# Altium integrated library Motorola Microcontroller 32-Bit.IntLib: 337 symbols (part 5 of 29)
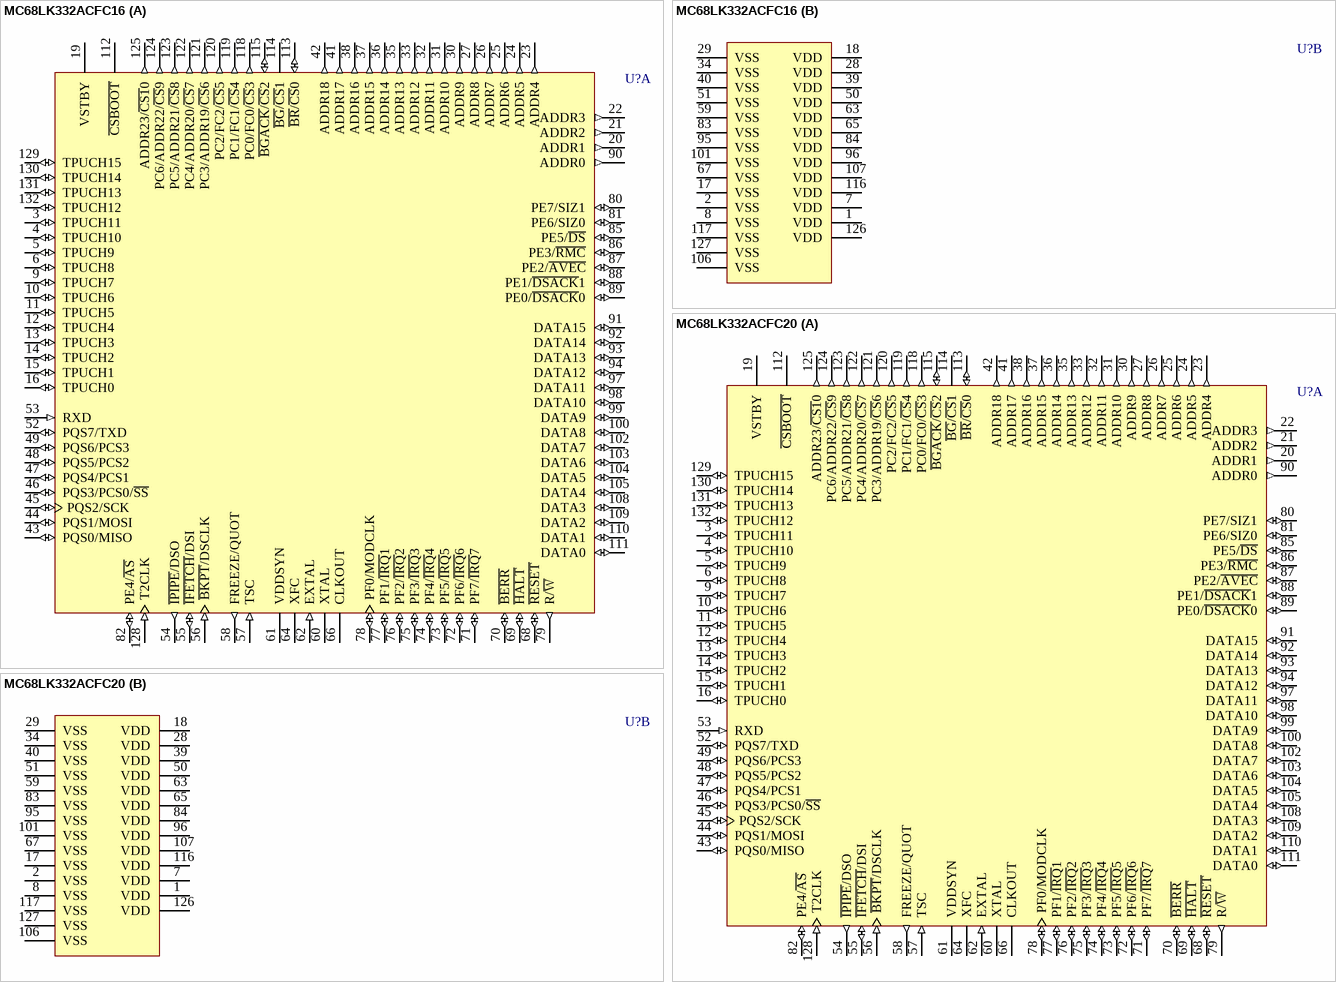
[diagram p244: symbols MC68LK332ACFC16 to MC68LK332ACFC20]

## MC68LK332ACFC16
designator U?
32-Bit Microcontroller; Published: 21-Mar-2003; DatasheetVersion: Jan-1996; PackageVersion: 1997; PackageReference: 831A-01; Publisher: Altium Limited; PackageDescription: PQFP; 132 Leads; Body 24 x 24 mm; Pitch 0.635 mm; ComponentLink1Description: Manufacturer Link; ComponentLink1URL: http://www.freescale.com/; ComponentLink2Description: Datasheet; ComponentLink2URL: http://www.freescale.com/files/microcontrollers/doc/user_guide/MC68332UM.pdf
footprint 831A-01 (PQFP; 132 Leads; Body 24 x 24 mm; Pitch 0.635 mm)
part A pins: 3 TPUCH11 (io), 4 TPUCH10 (io), 5 TPUCH9 (io), 6 TPUCH8 (io), 9 TPUCH7 (io), 10 TPUCH6 (io), 11 TPUCH5 (io), 12 TPUCH4 (io), 13 TPUCH3 (io), 14 TPUCH2 (io), 15 TPUCH1 (io), 16 TPUCH0 (io), 19 VSTBY (power), 20 ADDR1 (out), 21 ADDR2 (out), 22 ADDR3 (out), 23 ADDR4 (out), 24 ADDR5 (out), 25 ADDR6 (out), 26 ADDR7 (out), 27 ADDR8 (out), 30 ADDR9 (out), 31 ADDR10 (out), 32 ADDR11 (out), 33 ADDR12 (out), 35 ADDR13 (out), 36 ADDR14 (out), 37 ADDR15 (out), 38 ADDR16 (out), 41 ADDR17 (out), 42 ADDR18 (out), 43 PQS0/MISO (io), 44 PQS1/MOSI (io), 45 PQS2/SCK (io), 46 PQS3/PCS0/~{SS} (io), 47 PQS4/PCS1 (io), 48 PQS5/PCS2 (io), 49 PQS6/PCS3 (io), 52 PQS7/TXD (io), 53 RXD (in), 54 ~{IPIPE}/DSO (out), 55 ~{IFETCH}/DSI (io), 56 ~{BKPT}/DSCLK (in), 57 TSC (in), 58 FREEZE/QUOT (out), 60 XTAL, 61 VDDSYN (power), 62 EXTAL (in), 64 XFC, 66 CLKOUT (hiz), 68 ~{RESET} (io), 69 ~{HALT} (io), 70 ~{BERR} (io), 71 PF7/~{IRQ}7 (io), 72 PF6/~{IRQ}6 (io), 73 PF5/~{IRQ}5 (io), 74 PF4/~{IRQ}4 (io), 75 PF3/~{IRQ}3 (io), 76 PF2/~{IRQ}2 (io), 77 PF1/~{IRQ}1 (io), 78 PF0/MODCLK (io), 79 R/~{W} (out), 80 PE7/SIZ1 (io), 81 PE6/SIZ0 (io), 82 PE4/~{AS} (io), 85 PE5/~{DS} (io), 86 PE3/~{RMC} (io), 87 PE2/~{AVEC} (io), 88 PE1/~{DSACK}1 (io), 89 PE0/~{DSACK}0 (io), 90 ADDR0 (out), 91 DATA15 (io), 92 DATA14 (io), 93 DATA13 (io), 94 DATA12 (io), 97 DATA11 (io), 98 DATA10 (io), 99 DATA9 (io), 100 DATA8 (io), 102 DATA7 (io), 103 DATA6 (io), 104 DATA5 (io), 105 DATA4 (io), 108 DATA3 (io), 109 DATA2 (io), 110 DATA1 (io), 111 DATA0 (io), 112 ~{CSBOOT} (hiz), 113 ~{BR}/~{CS}0 (io), 114 ~{BG}/~{CS}1 (hiz), 115 ~{BGACK}/~{CS}2 (io), 118 PC0/FC0/~{CS}3 (out), 119 PC1/FC1/~{CS}4 (out), 120 PC2/FC2/~{CS}5 (out), 121 PC3/ADDR19/~{CS}6 (out), 122 PC4/ADDR20/~{CS}7 (out), 123 PC5/ADDR21/~{CS}8 (out), 124 PC6/ADDR22/~{CS}9 (out), 125 ADDR23/~{CS1}0 (out), 128 T2CLK (in), 129 TPUCH15 (io), 130 TPUCH14 (io), 131 TPUCH13 (io), 132 TPUCH12 (io)
part B pins: 1 VDD (power), 2 VSS (power), 7 VDD (power), 8 VSS (power), 17 VSS (power), 18 VDD (power), 28 VDD (power), 29 VSS (power), 34 VSS (power), 39 VDD (power), 40 VSS (power), 50 VDD (power), 51 VSS (power), 59 VSS (power), 63 VDD (power), 65 VDD (power), 67 VSS (power), 83 VSS (power), 84 VDD (power), 95 VSS (power), 96 VDD (power), 101 VSS (power), 106 VSS (power), 107 VDD (power), 116 VDD (power), 117 VSS (power), 126 VDD (power), 127 VSS (power)

## MC68LK332ACFC20
designator U?
32-Bit Microcontroller; Published: 21-Mar-2003; DatasheetVersion: Jan-1996; PackageVersion: 1997; PackageReference: 831A-01; Publisher: Altium Limited; PackageDescription: PQFP; 132 Leads; Body 24 x 24 mm; Pitch 0.635 mm; ComponentLink1Description: Manufacturer Link; ComponentLink1URL: http://www.freescale.com/; ComponentLink2Description: Datasheet; ComponentLink2URL: http://www.freescale.com/files/microcontrollers/doc/user_guide/MC68332UM.pdf
footprint 831A-01 (PQFP; 132 Leads; Body 24 x 24 mm; Pitch 0.635 mm)
part A pins: 3 TPUCH11 (io), 4 TPUCH10 (io), 5 TPUCH9 (io), 6 TPUCH8 (io), 9 TPUCH7 (io), 10 TPUCH6 (io), 11 TPUCH5 (io), 12 TPUCH4 (io), 13 TPUCH3 (io), 14 TPUCH2 (io), 15 TPUCH1 (io), 16 TPUCH0 (io), 19 VSTBY (power), 20 ADDR1 (out), 21 ADDR2 (out), 22 ADDR3 (out), 23 ADDR4 (out), 24 ADDR5 (out), 25 ADDR6 (out), 26 ADDR7 (out), 27 ADDR8 (out), 30 ADDR9 (out), 31 ADDR10 (out), 32 ADDR11 (out), 33 ADDR12 (out), 35 ADDR13 (out), 36 ADDR14 (out), 37 ADDR15 (out), 38 ADDR16 (out), 41 ADDR17 (out), 42 ADDR18 (out), 43 PQS0/MISO (io), 44 PQS1/MOSI (io), 45 PQS2/SCK (io), 46 PQS3/PCS0/~{SS} (io), 47 PQS4/PCS1 (io), 48 PQS5/PCS2 (io), 49 PQS6/PCS3 (io), 52 PQS7/TXD (io), 53 RXD (in), 54 ~{IPIPE}/DSO (out), 55 ~{IFETCH}/DSI (io), 56 ~{BKPT}/DSCLK (in), 57 TSC (in), 58 FREEZE/QUOT (out), 60 XTAL, 61 VDDSYN (power), 62 EXTAL (in), 64 XFC, 66 CLKOUT (hiz), 68 ~{RESET} (io), 69 ~{HALT} (io), 70 ~{BERR} (io), 71 PF7/~{IRQ}7 (io), 72 PF6/~{IRQ}6 (io), 73 PF5/~{IRQ}5 (io), 74 PF4/~{IRQ}4 (io), 75 PF3/~{IRQ}3 (io), 76 PF2/~{IRQ}2 (io), 77 PF1/~{IRQ}1 (io), 78 PF0/MODCLK (io), 79 R/~{W} (out), 80 PE7/SIZ1 (io), 81 PE6/SIZ0 (io), 82 PE4/~{AS} (io), 85 PE5/~{DS} (io), 86 PE3/~{RMC} (io), 87 PE2/~{AVEC} (io), 88 PE1/~{DSACK}1 (io), 89 PE0/~{DSACK}0 (io), 90 ADDR0 (out), 91 DATA15 (io), 92 DATA14 (io), 93 DATA13 (io), 94 DATA12 (io), 97 DATA11 (io), 98 DATA10 (io), 99 DATA9 (io), 100 DATA8 (io), 102 DATA7 (io), 103 DATA6 (io), 104 DATA5 (io), 105 DATA4 (io), 108 DATA3 (io), 109 DATA2 (io), 110 DATA1 (io), 111 DATA0 (io), 112 ~{CSBOOT} (hiz), 113 ~{BR}/~{CS}0 (io), 114 ~{BG}/~{CS}1 (hiz), 115 ~{BGACK}/~{CS}2 (io), 118 PC0/FC0/~{CS}3 (out), 119 PC1/FC1/~{CS}4 (out), 120 PC2/FC2/~{CS}5 (out), 121 PC3/ADDR19/~{CS}6 (out), 122 PC4/ADDR20/~{CS}7 (out), 123 PC5/ADDR21/~{CS}8 (out), 124 PC6/ADDR22/~{CS}9 (out), 125 ADDR23/~{CS1}0 (out), 128 T2CLK (in), 129 TPUCH15 (io), 130 TPUCH14 (io), 131 TPUCH13 (io), 132 TPUCH12 (io)
part B pins: 1 VDD (power), 2 VSS (power), 7 VDD (power), 8 VSS (power), 17 VSS (power), 18 VDD (power), 28 VDD (power), 29 VSS (power), 34 VSS (power), 39 VDD (power), 40 VSS (power), 50 VDD (power), 51 VSS (power), 59 VSS (power), 63 VDD (power), 65 VDD (power), 67 VSS (power), 83 VSS (power), 84 VDD (power), 95 VSS (power), 96 VDD (power), 101 VSS (power), 106 VSS (power), 107 VDD (power), 116 VDD (power), 117 VSS (power), 126 VDD (power), 127 VSS (power)

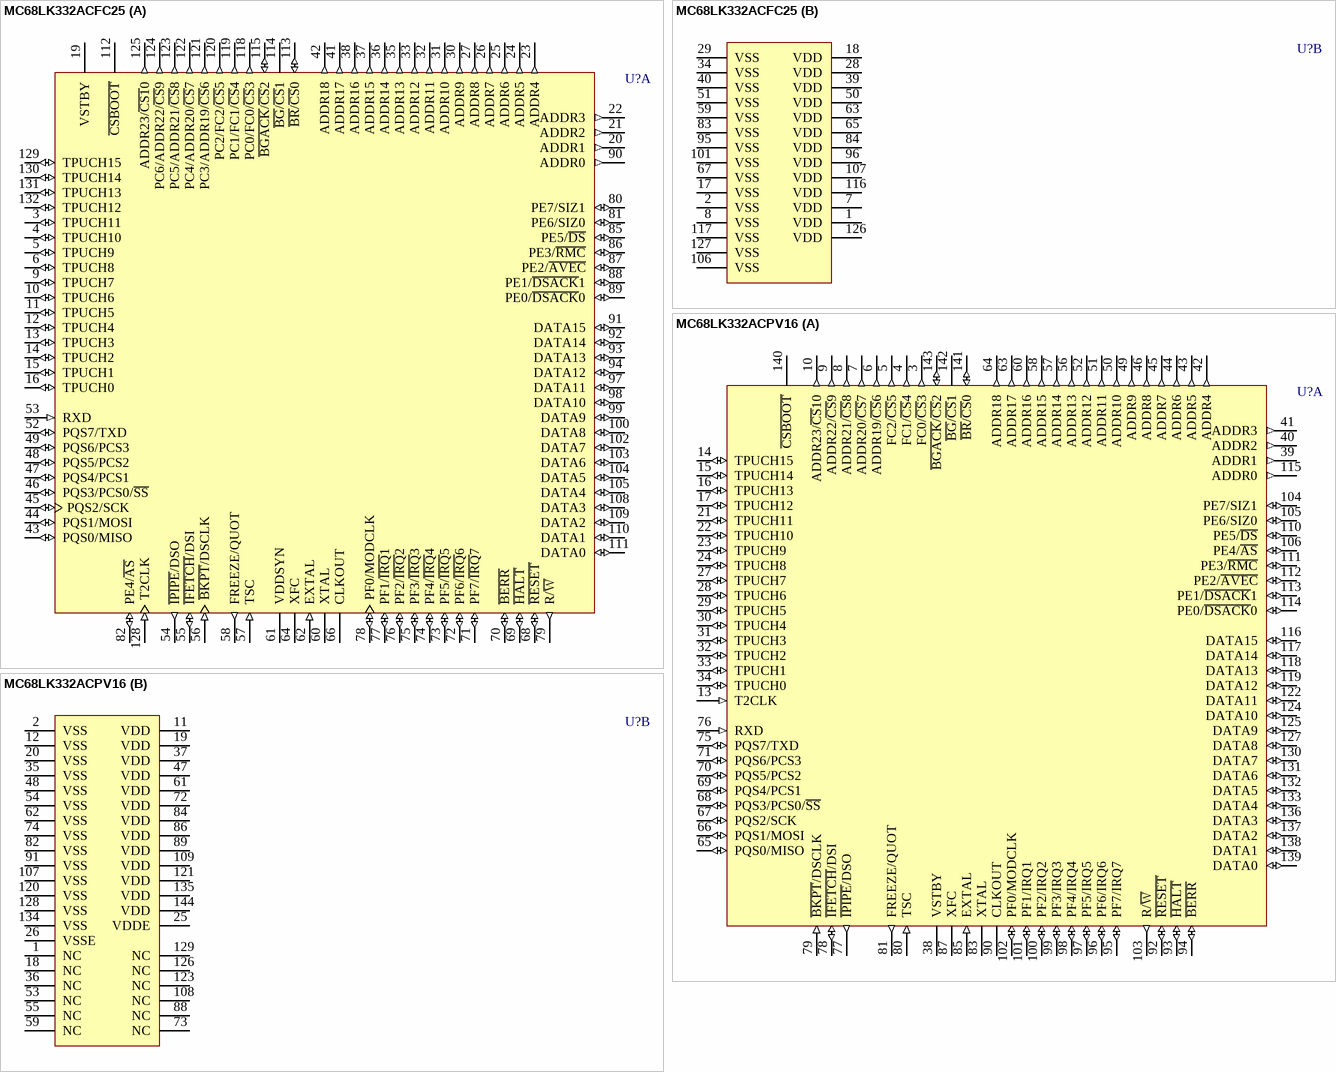
[diagram p40: symbols MC68LK332ACFC25 to MC68LK332ACPV16]

## MC68LK332ACFC25
designator U?
32-Bit Microcontroller; Published: 21-Mar-2003; DatasheetVersion: Jan-1996; PackageVersion: 1997; PackageReference: 831A-01; Publisher: Altium Limited; PackageDescription: PQFP; 132 Leads; Body 24 x 24 mm; Pitch 0.635 mm; ComponentLink1Description: Manufacturer Link; ComponentLink1URL: http://www.freescale.com/; ComponentLink2Description: Datasheet; ComponentLink2URL: http://www.freescale.com/files/microcontrollers/doc/user_guide/MC68332UM.pdf
footprint 831A-01 (PQFP; 132 Leads; Body 24 x 24 mm; Pitch 0.635 mm)
part A pins: 3 TPUCH11 (io), 4 TPUCH10 (io), 5 TPUCH9 (io), 6 TPUCH8 (io), 9 TPUCH7 (io), 10 TPUCH6 (io), 11 TPUCH5 (io), 12 TPUCH4 (io), 13 TPUCH3 (io), 14 TPUCH2 (io), 15 TPUCH1 (io), 16 TPUCH0 (io), 19 VSTBY (power), 20 ADDR1 (out), 21 ADDR2 (out), 22 ADDR3 (out), 23 ADDR4 (out), 24 ADDR5 (out), 25 ADDR6 (out), 26 ADDR7 (out), 27 ADDR8 (out), 30 ADDR9 (out), 31 ADDR10 (out), 32 ADDR11 (out), 33 ADDR12 (out), 35 ADDR13 (out), 36 ADDR14 (out), 37 ADDR15 (out), 38 ADDR16 (out), 41 ADDR17 (out), 42 ADDR18 (out), 43 PQS0/MISO (io), 44 PQS1/MOSI (io), 45 PQS2/SCK (io), 46 PQS3/PCS0/~{SS} (io), 47 PQS4/PCS1 (io), 48 PQS5/PCS2 (io), 49 PQS6/PCS3 (io), 52 PQS7/TXD (io), 53 RXD (in), 54 ~{IPIPE}/DSO (out), 55 ~{IFETCH}/DSI (io), 56 ~{BKPT}/DSCLK (in), 57 TSC (in), 58 FREEZE/QUOT (out), 60 XTAL, 61 VDDSYN (power), 62 EXTAL (in), 64 XFC, 66 CLKOUT (hiz), 68 ~{RESET} (io), 69 ~{HALT} (io), 70 ~{BERR} (io), 71 PF7/~{IRQ}7 (io), 72 PF6/~{IRQ}6 (io), 73 PF5/~{IRQ}5 (io), 74 PF4/~{IRQ}4 (io), 75 PF3/~{IRQ}3 (io), 76 PF2/~{IRQ}2 (io), 77 PF1/~{IRQ}1 (io), 78 PF0/MODCLK (io), 79 R/~{W} (out), 80 PE7/SIZ1 (io), 81 PE6/SIZ0 (io), 82 PE4/~{AS} (io), 85 PE5/~{DS} (io), 86 PE3/~{RMC} (io), 87 PE2/~{AVEC} (io), 88 PE1/~{DSACK}1 (io), 89 PE0/~{DSACK}0 (io), 90 ADDR0 (out), 91 DATA15 (io), 92 DATA14 (io), 93 DATA13 (io), 94 DATA12 (io), 97 DATA11 (io), 98 DATA10 (io), 99 DATA9 (io), 100 DATA8 (io), 102 DATA7 (io), 103 DATA6 (io), 104 DATA5 (io), 105 DATA4 (io), 108 DATA3 (io), 109 DATA2 (io), 110 DATA1 (io), 111 DATA0 (io), 112 ~{CSBOOT} (hiz), 113 ~{BR}/~{CS}0 (io), 114 ~{BG}/~{CS}1 (hiz), 115 ~{BGACK}/~{CS}2 (io), 118 PC0/FC0/~{CS}3 (out), 119 PC1/FC1/~{CS}4 (out), 120 PC2/FC2/~{CS}5 (out), 121 PC3/ADDR19/~{CS}6 (out), 122 PC4/ADDR20/~{CS}7 (out), 123 PC5/ADDR21/~{CS}8 (out), 124 PC6/ADDR22/~{CS}9 (out), 125 ADDR23/~{CS1}0 (out), 128 T2CLK (in), 129 TPUCH15 (io), 130 TPUCH14 (io), 131 TPUCH13 (io), 132 TPUCH12 (io)
part B pins: 1 VDD (power), 2 VSS (power), 7 VDD (power), 8 VSS (power), 17 VSS (power), 18 VDD (power), 28 VDD (power), 29 VSS (power), 34 VSS (power), 39 VDD (power), 40 VSS (power), 50 VDD (power), 51 VSS (power), 59 VSS (power), 63 VDD (power), 65 VDD (power), 67 VSS (power), 83 VSS (power), 84 VDD (power), 95 VSS (power), 96 VDD (power), 101 VSS (power), 106 VSS (power), 107 VDD (power), 116 VDD (power), 117 VSS (power), 126 VDD (power), 127 VSS (power)

## MC68LK332ACPV16
designator U?
32-Bit Microcontroller; Published: 21-Mar-2003; LatestRevisionDate: 13-Apr-2006; LatestRevisionNote: IPC-7351 Footprint Added.; DatasheetVersion: Jan-1996; PackageVersion: 1995; PackageReference: 918-02; Publisher: Altium Limited; PackageDescription: 144-Pin Thin Quad Flat Pack 0.5 mm Pitch; ComponentLink1Description: Manufacturer Link; ComponentLink1URL: http://www.freescale.com/; ComponentLink2Description: Datasheet; ComponentLink2URL: http://www.freescale.com/files/microcontrollers/doc/user_guide/MC68332UM.pdf
footprint 918-02_N (Thin QFP, 144-Leads, Body 20x20mm, Pitch 0.5mm, IPC Medium Density)
footprint 918-02_L (Thin QFP, 144-Leads, Body 20x20mm, Pitch 0.5mm, IPC High Density)
footprint 918-02_M (Thin QFP, 144-Leads, Body 20x20mm, Pitch 0.5mm, IPC Low Density)
3D model MC68LK332-918 (144-Pin Thin Quad Flat Pack 0.5 mm Pitch)
part A pins: 3 FC0/~{CS}3 (out), 4 FC1/~{CS}4 (out), 5 FC2/~{CS}5 (out), 6 ADDR19/~{CS}6 (out), 7 ADDR20/~{CS}7 (out), 8 ADDR21/~{CS}8 (out), 9 ADDR22/~{CS}9 (out), 10 ADDR23/~{CS}10 (out), 13 T2CLK (in), 14 TPUCH15 (io), 15 TPUCH14 (io), 16 TPUCH13 (io), 17 TPUCH12 (io), 21 TPUCH11 (io), 22 TPUCH10 (io), 23 TPUCH9 (io), 24 TPUCH8 (io), 27 TPUCH7 (io), 28 TPUCH6 (io), 29 TPUCH5 (io), 30 TPUCH4 (io), 31 TPUCH3 (io), 32 TPUCH2 (io), 33 TPUCH1 (io), 34 TPUCH0 (io), 38 VSTBY (power), 39 ADDR1 (out), 40 ADDR2 (out), 41 ADDR3 (out), 42 ADDR4 (out), 43 ADDR5 (out), 44 ADDR6 (out), 45 ADDR7 (out), 46 ADDR8 (out), 49 ADDR9 (out), 50 ADDR10 (out), 51 ADDR11 (out), 52 ADDR12 (out), 56 ADDR13 (out), 57 ADDR14 (out), 58 ADDR15 (out), 60 ADDR16 (out), 63 ADDR17 (out), 64 ADDR18 (out), 65 PQS0/MISO (io), 66 PQS1/MOSI (io), 67 PQS2/SCK (io), 68 PQS3/PCS0/~{SS} (io), 69 PQS4/PCS1 (io), 70 PQS5/PCS2 (io), 71 PQS6/PCS3 (io), 75 PQS7/TXD (io), 76 RXD (in), 77 ~{IPIPE}/DSO (out), 78 ~{IFETCH}/DSI (io), 79 ~{BKPT}/DSCLK (in), 80 TSC (in), 81 FREEZE/QUOT (out), 83 XTAL, 85 EXTAL (in), 87 XFC, 90 CLKOUT (hiz), 92 ~{RESET} (io), 93 ~{HALT} (io), 94 ~{BERR} (io), 95 PF7/IRQ7 (io), 96 PF6/IRQ6 (io), 97 PF5/IRQ5 (io), 98 PF4/IRQ4 (io), 99 PF3/IRQ3 (io), 100 PF2/IRQ2 (io), 101 PF1/IRQ1 (io), 102 PF0/MODCLK (io), 103 R/~{W} (out), 104 PE7/SIZ1 (io), 105 PE6/SIZ0 (io), 106 PE4/~{AS} (io), 110 PE5/~{DS} (io), 111 PE3/~{RMC} (io), 112 PE2/~{AVEC} (io), 113 PE1/~{DSACK}1 (io), 114 PE0/~{DSACK}0 (io), 115 ADDR0 (out), 116 DATA15 (io), 117 DATA14 (io), 118 DATA13 (io), 119 DATA12 (io), 122 DATA11 (io), 124 DATA10 (io), 125 DATA9 (io), 127 DATA8 (io), 130 DATA7 (io), 131 DATA6 (io), 132 DATA5 (io), 133 DATA4 (io), 136 DATA3 (io), 137 DATA2 (io), 138 DATA1 (io), 139 DATA0 (io), 140 ~{CSBOOT} (hiz), 141 ~{BR}/~{CS}0 (io), 142 ~{BG}/~{CS}1 (hiz), 143 ~{BGACK}/~{CS}2 (io)
part B pins: 1 NC, 2 VSS (power), 11 VDD (power), 12 VSS (power), 18 NC, 19 VDD (power), 20 VSS (power), 25 VDDE (power), 26 VSSE (power), 35 VSS (power), 36 NC, 37 VDD (power), 47 VDD (power), 48 VSS (power), 53 NC, 54 VSS (power), 55 NC, 59 NC, 61 VDD (power), 62 VSS (power), 72 VDD (power), 73 NC, 74 VSS (power), 82 VSS (power), 84 VDD (power), 86 VDD (power), 88 NC, 89 VDD (power), 91 VSS (power), 107 VSS (power), 108 NC, 109 VDD (power), 120 VSS (power), 121 VDD (power), 123 NC, 126 NC, 128 VSS (power), 129 NC, 134 VSS (power), 135 VDD (power), 144 VDD (power)

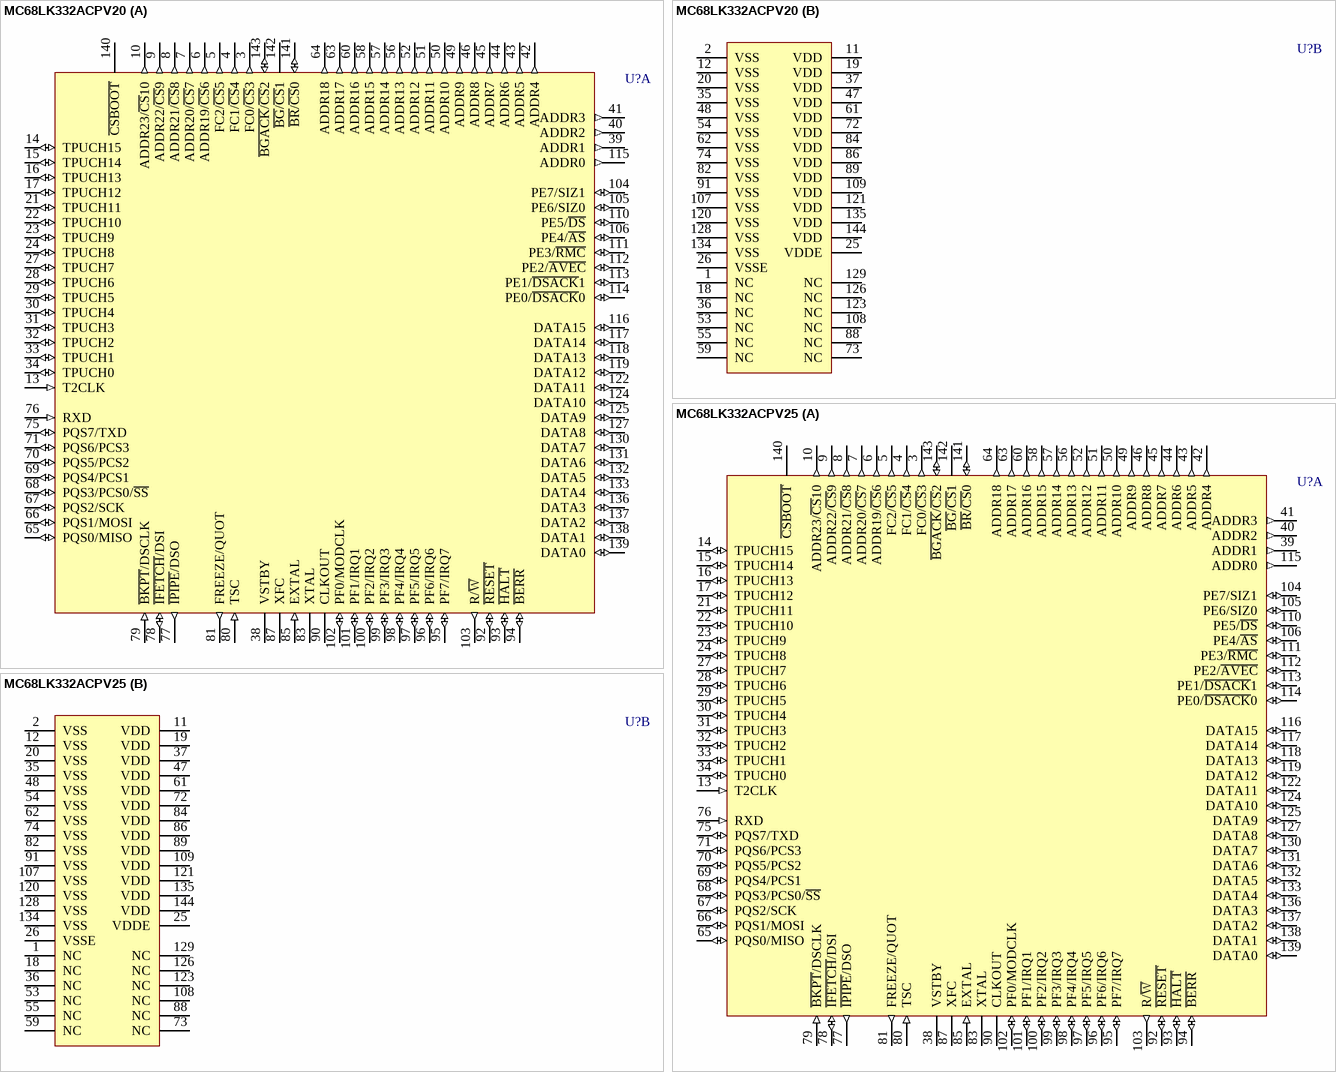
[diagram p41: symbols MC68LK332ACPV20 to MC68LK332ACPV25]

## MC68LK332ACPV20
designator U?
32-Bit Microcontroller; Published: 21-Mar-2003; LatestRevisionDate: 13-Apr-2006; LatestRevisionNote: IPC-7351 Footprint Added.; DatasheetVersion: Jan-1996; PackageVersion: 1995; PackageReference: 918-02; Publisher: Altium Limited; PackageDescription: 144-Pin Thin Quad Flat Pack 0.5 mm Pitch; ComponentLink1Description: Manufacturer Link; ComponentLink1URL: http://www.freescale.com/; ComponentLink2Description: Datasheet; ComponentLink2URL: http://www.freescale.com/files/microcontrollers/doc/user_guide/MC68332UM.pdf
footprint 918-02_N (Thin QFP, 144-Leads, Body 20x20mm, Pitch 0.5mm, IPC Medium Density)
footprint 918-02_L (Thin QFP, 144-Leads, Body 20x20mm, Pitch 0.5mm, IPC High Density)
footprint 918-02_M (Thin QFP, 144-Leads, Body 20x20mm, Pitch 0.5mm, IPC Low Density)
3D model MC68LK332-918 (144-Pin Thin Quad Flat Pack 0.5 mm Pitch)
part A pins: 3 FC0/~{CS}3 (out), 4 FC1/~{CS}4 (out), 5 FC2/~{CS}5 (out), 6 ADDR19/~{CS}6 (out), 7 ADDR20/~{CS}7 (out), 8 ADDR21/~{CS}8 (out), 9 ADDR22/~{CS}9 (out), 10 ADDR23/~{CS}10 (out), 13 T2CLK (in), 14 TPUCH15 (io), 15 TPUCH14 (io), 16 TPUCH13 (io), 17 TPUCH12 (io), 21 TPUCH11 (io), 22 TPUCH10 (io), 23 TPUCH9 (io), 24 TPUCH8 (io), 27 TPUCH7 (io), 28 TPUCH6 (io), 29 TPUCH5 (io), 30 TPUCH4 (io), 31 TPUCH3 (io), 32 TPUCH2 (io), 33 TPUCH1 (io), 34 TPUCH0 (io), 38 VSTBY (power), 39 ADDR1 (out), 40 ADDR2 (out), 41 ADDR3 (out), 42 ADDR4 (out), 43 ADDR5 (out), 44 ADDR6 (out), 45 ADDR7 (out), 46 ADDR8 (out), 49 ADDR9 (out), 50 ADDR10 (out), 51 ADDR11 (out), 52 ADDR12 (out), 56 ADDR13 (out), 57 ADDR14 (out), 58 ADDR15 (out), 60 ADDR16 (out), 63 ADDR17 (out), 64 ADDR18 (out), 65 PQS0/MISO (io), 66 PQS1/MOSI (io), 67 PQS2/SCK (io), 68 PQS3/PCS0/~{SS} (io), 69 PQS4/PCS1 (io), 70 PQS5/PCS2 (io), 71 PQS6/PCS3 (io), 75 PQS7/TXD (io), 76 RXD (in), 77 ~{IPIPE}/DSO (out), 78 ~{IFETCH}/DSI (io), 79 ~{BKPT}/DSCLK (in), 80 TSC (in), 81 FREEZE/QUOT (out), 83 XTAL, 85 EXTAL (in), 87 XFC, 90 CLKOUT (hiz), 92 ~{RESET} (io), 93 ~{HALT} (io), 94 ~{BERR} (io), 95 PF7/IRQ7 (io), 96 PF6/IRQ6 (io), 97 PF5/IRQ5 (io), 98 PF4/IRQ4 (io), 99 PF3/IRQ3 (io), 100 PF2/IRQ2 (io), 101 PF1/IRQ1 (io), 102 PF0/MODCLK (io), 103 R/~{W} (out), 104 PE7/SIZ1 (io), 105 PE6/SIZ0 (io), 106 PE4/~{AS} (io), 110 PE5/~{DS} (io), 111 PE3/~{RMC} (io), 112 PE2/~{AVEC} (io), 113 PE1/~{DSACK}1 (io), 114 PE0/~{DSACK}0 (io), 115 ADDR0 (out), 116 DATA15 (io), 117 DATA14 (io), 118 DATA13 (io), 119 DATA12 (io), 122 DATA11 (io), 124 DATA10 (io), 125 DATA9 (io), 127 DATA8 (io), 130 DATA7 (io), 131 DATA6 (io), 132 DATA5 (io), 133 DATA4 (io), 136 DATA3 (io), 137 DATA2 (io), 138 DATA1 (io), 139 DATA0 (io), 140 ~{CSBOOT} (hiz), 141 ~{BR}/~{CS}0 (io), 142 ~{BG}/~{CS}1 (hiz), 143 ~{BGACK}/~{CS}2 (io)
part B pins: 1 NC, 2 VSS (power), 11 VDD (power), 12 VSS (power), 18 NC, 19 VDD (power), 20 VSS (power), 25 VDDE (power), 26 VSSE (power), 35 VSS (power), 36 NC, 37 VDD (power), 47 VDD (power), 48 VSS (power), 53 NC, 54 VSS (power), 55 NC, 59 NC, 61 VDD (power), 62 VSS (power), 72 VDD (power), 73 NC, 74 VSS (power), 82 VSS (power), 84 VDD (power), 86 VDD (power), 88 NC, 89 VDD (power), 91 VSS (power), 107 VSS (power), 108 NC, 109 VDD (power), 120 VSS (power), 121 VDD (power), 123 NC, 126 NC, 128 VSS (power), 129 NC, 134 VSS (power), 135 VDD (power), 144 VDD (power)

## MC68LK332ACPV25
designator U?
32-Bit Microcontroller; Published: 21-Mar-2003; LatestRevisionDate: 13-Apr-2006; LatestRevisionNote: IPC-7351 Footprint Added.; DatasheetVersion: Jan-1996; PackageVersion: 1995; PackageReference: 918-02; Publisher: Altium Limited; PackageDescription: 144-Pin Thin Quad Flat Pack 0.5 mm Pitch; ComponentLink1Description: Manufacturer Link; ComponentLink1URL: http://www.freescale.com/; ComponentLink2Description: Datasheet; ComponentLink2URL: http://www.freescale.com/files/microcontrollers/doc/user_guide/MC68332UM.pdf
footprint 918-02_N (Thin QFP, 144-Leads, Body 20x20mm, Pitch 0.5mm, IPC Medium Density)
footprint 918-02_L (Thin QFP, 144-Leads, Body 20x20mm, Pitch 0.5mm, IPC High Density)
footprint 918-02_M (Thin QFP, 144-Leads, Body 20x20mm, Pitch 0.5mm, IPC Low Density)
3D model MC68LK332-918 (144-Pin Thin Quad Flat Pack 0.5 mm Pitch)
part A pins: 3 FC0/~{CS}3 (out), 4 FC1/~{CS}4 (out), 5 FC2/~{CS}5 (out), 6 ADDR19/~{CS}6 (out), 7 ADDR20/~{CS}7 (out), 8 ADDR21/~{CS}8 (out), 9 ADDR22/~{CS}9 (out), 10 ADDR23/~{CS}10 (out), 13 T2CLK (in), 14 TPUCH15 (io), 15 TPUCH14 (io), 16 TPUCH13 (io), 17 TPUCH12 (io), 21 TPUCH11 (io), 22 TPUCH10 (io), 23 TPUCH9 (io), 24 TPUCH8 (io), 27 TPUCH7 (io), 28 TPUCH6 (io), 29 TPUCH5 (io), 30 TPUCH4 (io), 31 TPUCH3 (io), 32 TPUCH2 (io), 33 TPUCH1 (io), 34 TPUCH0 (io), 38 VSTBY (power), 39 ADDR1 (out), 40 ADDR2 (out), 41 ADDR3 (out), 42 ADDR4 (out), 43 ADDR5 (out), 44 ADDR6 (out), 45 ADDR7 (out), 46 ADDR8 (out), 49 ADDR9 (out), 50 ADDR10 (out), 51 ADDR11 (out), 52 ADDR12 (out), 56 ADDR13 (out), 57 ADDR14 (out), 58 ADDR15 (out), 60 ADDR16 (out), 63 ADDR17 (out), 64 ADDR18 (out), 65 PQS0/MISO (io), 66 PQS1/MOSI (io), 67 PQS2/SCK (io), 68 PQS3/PCS0/~{SS} (io), 69 PQS4/PCS1 (io), 70 PQS5/PCS2 (io), 71 PQS6/PCS3 (io), 75 PQS7/TXD (io), 76 RXD (in), 77 ~{IPIPE}/DSO (out), 78 ~{IFETCH}/DSI (io), 79 ~{BKPT}/DSCLK (in), 80 TSC (in), 81 FREEZE/QUOT (out), 83 XTAL, 85 EXTAL (in), 87 XFC, 90 CLKOUT (hiz), 92 ~{RESET} (io), 93 ~{HALT} (io), 94 ~{BERR} (io), 95 PF7/IRQ7 (io), 96 PF6/IRQ6 (io), 97 PF5/IRQ5 (io), 98 PF4/IRQ4 (io), 99 PF3/IRQ3 (io), 100 PF2/IRQ2 (io), 101 PF1/IRQ1 (io), 102 PF0/MODCLK (io), 103 R/~{W} (out), 104 PE7/SIZ1 (io), 105 PE6/SIZ0 (io), 106 PE4/~{AS} (io), 110 PE5/~{DS} (io), 111 PE3/~{RMC} (io), 112 PE2/~{AVEC} (io), 113 PE1/~{DSACK}1 (io), 114 PE0/~{DSACK}0 (io), 115 ADDR0 (out), 116 DATA15 (io), 117 DATA14 (io), 118 DATA13 (io), 119 DATA12 (io), 122 DATA11 (io), 124 DATA10 (io), 125 DATA9 (io), 127 DATA8 (io), 130 DATA7 (io), 131 DATA6 (io), 132 DATA5 (io), 133 DATA4 (io), 136 DATA3 (io), 137 DATA2 (io), 138 DATA1 (io), 139 DATA0 (io), 140 ~{CSBOOT} (hiz), 141 ~{BR}/~{CS}0 (io), 142 ~{BG}/~{CS}1 (hiz), 143 ~{BGACK}/~{CS}2 (io)
part B pins: 1 NC, 2 VSS (power), 11 VDD (power), 12 VSS (power), 18 NC, 19 VDD (power), 20 VSS (power), 25 VDDE (power), 26 VSSE (power), 35 VSS (power), 36 NC, 37 VDD (power), 47 VDD (power), 48 VSS (power), 53 NC, 54 VSS (power), 55 NC, 59 NC, 61 VDD (power), 62 VSS (power), 72 VDD (power), 73 NC, 74 VSS (power), 82 VSS (power), 84 VDD (power), 86 VDD (power), 88 NC, 89 VDD (power), 91 VSS (power), 107 VSS (power), 108 NC, 109 VDD (power), 120 VSS (power), 121 VDD (power), 123 NC, 126 NC, 128 VSS (power), 129 NC, 134 VSS (power), 135 VDD (power), 144 VDD (power)

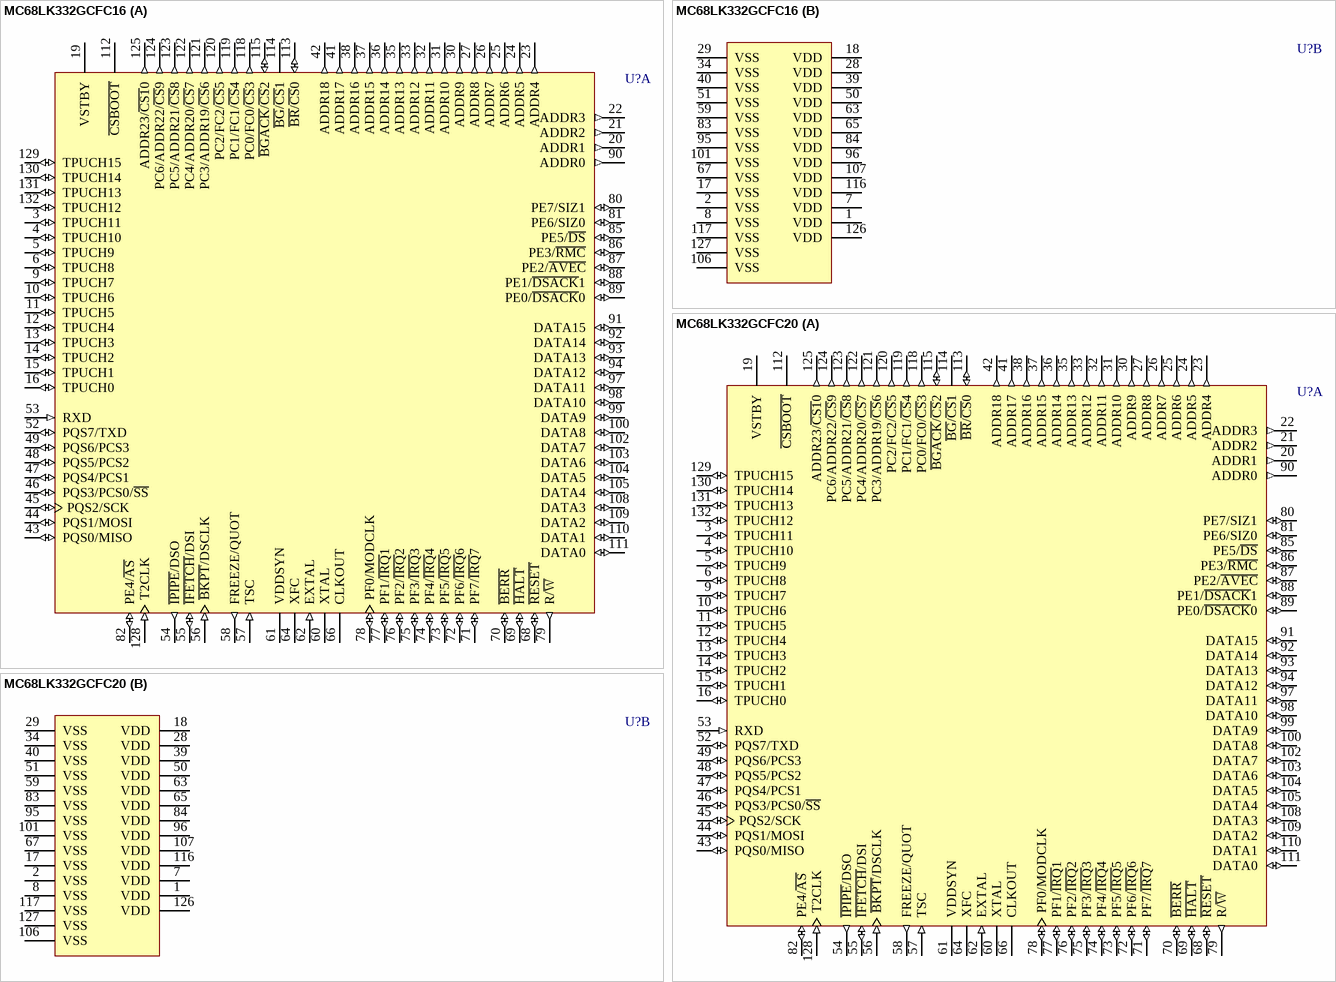
[diagram p42: symbols MC68LK332GCFC16 to MC68LK332GCFC20]

## MC68LK332GCFC16
designator U?
32-Bit Microcontroller; Published: 21-Mar-2003; DatasheetVersion: Jan-1996; PackageVersion: 1997; PackageReference: 831A-01; Publisher: Altium Limited; PackageDescription: PQFP; 132 Leads; Body 24 x 24 mm; Pitch 0.635 mm; ComponentLink1Description: Manufacturer Link; ComponentLink1URL: http://www.freescale.com/; ComponentLink2Description: Datasheet; ComponentLink2URL: http://www.freescale.com/files/microcontrollers/doc/user_guide/MC68332UM.pdf
footprint 831A-01 (PQFP; 132 Leads; Body 24 x 24 mm; Pitch 0.635 mm)
part A pins: 3 TPUCH11 (io), 4 TPUCH10 (io), 5 TPUCH9 (io), 6 TPUCH8 (io), 9 TPUCH7 (io), 10 TPUCH6 (io), 11 TPUCH5 (io), 12 TPUCH4 (io), 13 TPUCH3 (io), 14 TPUCH2 (io), 15 TPUCH1 (io), 16 TPUCH0 (io), 19 VSTBY (power), 20 ADDR1 (out), 21 ADDR2 (out), 22 ADDR3 (out), 23 ADDR4 (out), 24 ADDR5 (out), 25 ADDR6 (out), 26 ADDR7 (out), 27 ADDR8 (out), 30 ADDR9 (out), 31 ADDR10 (out), 32 ADDR11 (out), 33 ADDR12 (out), 35 ADDR13 (out), 36 ADDR14 (out), 37 ADDR15 (out), 38 ADDR16 (out), 41 ADDR17 (out), 42 ADDR18 (out), 43 PQS0/MISO (io), 44 PQS1/MOSI (io), 45 PQS2/SCK (io), 46 PQS3/PCS0/~{SS} (io), 47 PQS4/PCS1 (io), 48 PQS5/PCS2 (io), 49 PQS6/PCS3 (io), 52 PQS7/TXD (io), 53 RXD (in), 54 ~{IPIPE}/DSO (out), 55 ~{IFETCH}/DSI (io), 56 ~{BKPT}/DSCLK (in), 57 TSC (in), 58 FREEZE/QUOT (out), 60 XTAL, 61 VDDSYN (power), 62 EXTAL (in), 64 XFC, 66 CLKOUT (hiz), 68 ~{RESET} (io), 69 ~{HALT} (io), 70 ~{BERR} (io), 71 PF7/~{IRQ}7 (io), 72 PF6/~{IRQ}6 (io), 73 PF5/~{IRQ}5 (io), 74 PF4/~{IRQ}4 (io), 75 PF3/~{IRQ}3 (io), 76 PF2/~{IRQ}2 (io), 77 PF1/~{IRQ}1 (io), 78 PF0/MODCLK (io), 79 R/~{W} (out), 80 PE7/SIZ1 (io), 81 PE6/SIZ0 (io), 82 PE4/~{AS} (io), 85 PE5/~{DS} (io), 86 PE3/~{RMC} (io), 87 PE2/~{AVEC} (io), 88 PE1/~{DSACK}1 (io), 89 PE0/~{DSACK}0 (io), 90 ADDR0 (out), 91 DATA15 (io), 92 DATA14 (io), 93 DATA13 (io), 94 DATA12 (io), 97 DATA11 (io), 98 DATA10 (io), 99 DATA9 (io), 100 DATA8 (io), 102 DATA7 (io), 103 DATA6 (io), 104 DATA5 (io), 105 DATA4 (io), 108 DATA3 (io), 109 DATA2 (io), 110 DATA1 (io), 111 DATA0 (io), 112 ~{CSBOOT} (hiz), 113 ~{BR}/~{CS}0 (io), 114 ~{BG}/~{CS}1 (hiz), 115 ~{BGACK}/~{CS}2 (io), 118 PC0/FC0/~{CS}3 (out), 119 PC1/FC1/~{CS}4 (out), 120 PC2/FC2/~{CS}5 (out), 121 PC3/ADDR19/~{CS}6 (out), 122 PC4/ADDR20/~{CS}7 (out), 123 PC5/ADDR21/~{CS}8 (out), 124 PC6/ADDR22/~{CS}9 (out), 125 ADDR23/~{CS1}0 (out), 128 T2CLK (in), 129 TPUCH15 (io), 130 TPUCH14 (io), 131 TPUCH13 (io), 132 TPUCH12 (io)
part B pins: 1 VDD (power), 2 VSS (power), 7 VDD (power), 8 VSS (power), 17 VSS (power), 18 VDD (power), 28 VDD (power), 29 VSS (power), 34 VSS (power), 39 VDD (power), 40 VSS (power), 50 VDD (power), 51 VSS (power), 59 VSS (power), 63 VDD (power), 65 VDD (power), 67 VSS (power), 83 VSS (power), 84 VDD (power), 95 VSS (power), 96 VDD (power), 101 VSS (power), 106 VSS (power), 107 VDD (power), 116 VDD (power), 117 VSS (power), 126 VDD (power), 127 VSS (power)

## MC68LK332GCFC20
designator U?
32-Bit Microcontroller; Published: 21-Mar-2003; DatasheetVersion: Jan-1996; PackageVersion: 1997; PackageReference: 831A-01; Publisher: Altium Limited; PackageDescription: PQFP; 132 Leads; Body 24 x 24 mm; Pitch 0.635 mm; ComponentLink1Description: Manufacturer Link; ComponentLink1URL: http://www.freescale.com/; ComponentLink2Description: Datasheet; ComponentLink2URL: http://www.freescale.com/files/microcontrollers/doc/user_guide/MC68332UM.pdf
footprint 831A-01 (PQFP; 132 Leads; Body 24 x 24 mm; Pitch 0.635 mm)
part A pins: 3 TPUCH11 (io), 4 TPUCH10 (io), 5 TPUCH9 (io), 6 TPUCH8 (io), 9 TPUCH7 (io), 10 TPUCH6 (io), 11 TPUCH5 (io), 12 TPUCH4 (io), 13 TPUCH3 (io), 14 TPUCH2 (io), 15 TPUCH1 (io), 16 TPUCH0 (io), 19 VSTBY (power), 20 ADDR1 (out), 21 ADDR2 (out), 22 ADDR3 (out), 23 ADDR4 (out), 24 ADDR5 (out), 25 ADDR6 (out), 26 ADDR7 (out), 27 ADDR8 (out), 30 ADDR9 (out), 31 ADDR10 (out), 32 ADDR11 (out), 33 ADDR12 (out), 35 ADDR13 (out), 36 ADDR14 (out), 37 ADDR15 (out), 38 ADDR16 (out), 41 ADDR17 (out), 42 ADDR18 (out), 43 PQS0/MISO (io), 44 PQS1/MOSI (io), 45 PQS2/SCK (io), 46 PQS3/PCS0/~{SS} (io), 47 PQS4/PCS1 (io), 48 PQS5/PCS2 (io), 49 PQS6/PCS3 (io), 52 PQS7/TXD (io), 53 RXD (in), 54 ~{IPIPE}/DSO (out), 55 ~{IFETCH}/DSI (io), 56 ~{BKPT}/DSCLK (in), 57 TSC (in), 58 FREEZE/QUOT (out), 60 XTAL, 61 VDDSYN (power), 62 EXTAL (in), 64 XFC, 66 CLKOUT (hiz), 68 ~{RESET} (io), 69 ~{HALT} (io), 70 ~{BERR} (io), 71 PF7/~{IRQ}7 (io), 72 PF6/~{IRQ}6 (io), 73 PF5/~{IRQ}5 (io), 74 PF4/~{IRQ}4 (io), 75 PF3/~{IRQ}3 (io), 76 PF2/~{IRQ}2 (io), 77 PF1/~{IRQ}1 (io), 78 PF0/MODCLK (io), 79 R/~{W} (out), 80 PE7/SIZ1 (io), 81 PE6/SIZ0 (io), 82 PE4/~{AS} (io), 85 PE5/~{DS} (io), 86 PE3/~{RMC} (io), 87 PE2/~{AVEC} (io), 88 PE1/~{DSACK}1 (io), 89 PE0/~{DSACK}0 (io), 90 ADDR0 (out), 91 DATA15 (io), 92 DATA14 (io), 93 DATA13 (io), 94 DATA12 (io), 97 DATA11 (io), 98 DATA10 (io), 99 DATA9 (io), 100 DATA8 (io), 102 DATA7 (io), 103 DATA6 (io), 104 DATA5 (io), 105 DATA4 (io), 108 DATA3 (io), 109 DATA2 (io), 110 DATA1 (io), 111 DATA0 (io), 112 ~{CSBOOT} (hiz), 113 ~{BR}/~{CS}0 (io), 114 ~{BG}/~{CS}1 (hiz), 115 ~{BGACK}/~{CS}2 (io), 118 PC0/FC0/~{CS}3 (out), 119 PC1/FC1/~{CS}4 (out), 120 PC2/FC2/~{CS}5 (out), 121 PC3/ADDR19/~{CS}6 (out), 122 PC4/ADDR20/~{CS}7 (out), 123 PC5/ADDR21/~{CS}8 (out), 124 PC6/ADDR22/~{CS}9 (out), 125 ADDR23/~{CS1}0 (out), 128 T2CLK (in), 129 TPUCH15 (io), 130 TPUCH14 (io), 131 TPUCH13 (io), 132 TPUCH12 (io)
part B pins: 1 VDD (power), 2 VSS (power), 7 VDD (power), 8 VSS (power), 17 VSS (power), 18 VDD (power), 28 VDD (power), 29 VSS (power), 34 VSS (power), 39 VDD (power), 40 VSS (power), 50 VDD (power), 51 VSS (power), 59 VSS (power), 63 VDD (power), 65 VDD (power), 67 VSS (power), 83 VSS (power), 84 VDD (power), 95 VSS (power), 96 VDD (power), 101 VSS (power), 106 VSS (power), 107 VDD (power), 116 VDD (power), 117 VSS (power), 126 VDD (power), 127 VSS (power)

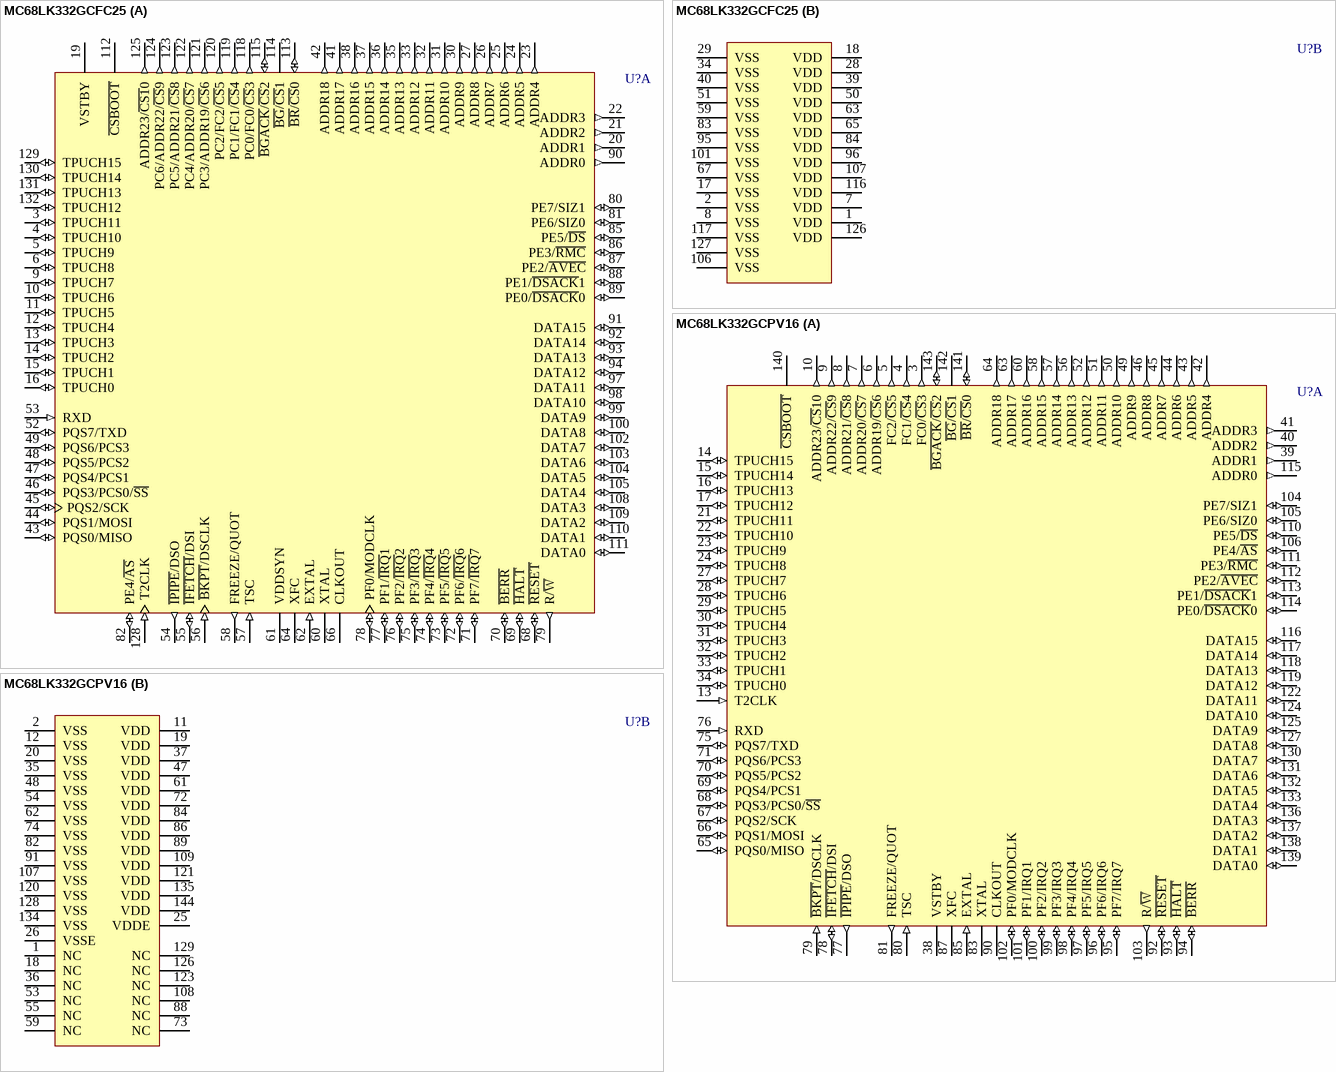
[diagram p43: symbols MC68LK332GCFC25 to MC68LK332GCPV16]

## MC68LK332GCFC25
designator U?
32-Bit Microcontroller; Published: 21-Mar-2003; DatasheetVersion: Jan-1996; PackageVersion: 1997; PackageReference: 831A-01; Publisher: Altium Limited; PackageDescription: PQFP; 132 Leads; Body 24 x 24 mm; Pitch 0.635 mm; ComponentLink1Description: Manufacturer Link; ComponentLink1URL: http://www.freescale.com/; ComponentLink2Description: Datasheet; ComponentLink2URL: http://www.freescale.com/files/microcontrollers/doc/user_guide/MC68332UM.pdf
footprint 831A-01 (PQFP; 132 Leads; Body 24 x 24 mm; Pitch 0.635 mm)
part A pins: 3 TPUCH11 (io), 4 TPUCH10 (io), 5 TPUCH9 (io), 6 TPUCH8 (io), 9 TPUCH7 (io), 10 TPUCH6 (io), 11 TPUCH5 (io), 12 TPUCH4 (io), 13 TPUCH3 (io), 14 TPUCH2 (io), 15 TPUCH1 (io), 16 TPUCH0 (io), 19 VSTBY (power), 20 ADDR1 (out), 21 ADDR2 (out), 22 ADDR3 (out), 23 ADDR4 (out), 24 ADDR5 (out), 25 ADDR6 (out), 26 ADDR7 (out), 27 ADDR8 (out), 30 ADDR9 (out), 31 ADDR10 (out), 32 ADDR11 (out), 33 ADDR12 (out), 35 ADDR13 (out), 36 ADDR14 (out), 37 ADDR15 (out), 38 ADDR16 (out), 41 ADDR17 (out), 42 ADDR18 (out), 43 PQS0/MISO (io), 44 PQS1/MOSI (io), 45 PQS2/SCK (io), 46 PQS3/PCS0/~{SS} (io), 47 PQS4/PCS1 (io), 48 PQS5/PCS2 (io), 49 PQS6/PCS3 (io), 52 PQS7/TXD (io), 53 RXD (in), 54 ~{IPIPE}/DSO (out), 55 ~{IFETCH}/DSI (io), 56 ~{BKPT}/DSCLK (in), 57 TSC (in), 58 FREEZE/QUOT (out), 60 XTAL, 61 VDDSYN (power), 62 EXTAL (in), 64 XFC, 66 CLKOUT (hiz), 68 ~{RESET} (io), 69 ~{HALT} (io), 70 ~{BERR} (io), 71 PF7/~{IRQ}7 (io), 72 PF6/~{IRQ}6 (io), 73 PF5/~{IRQ}5 (io), 74 PF4/~{IRQ}4 (io), 75 PF3/~{IRQ}3 (io), 76 PF2/~{IRQ}2 (io), 77 PF1/~{IRQ}1 (io), 78 PF0/MODCLK (io), 79 R/~{W} (out), 80 PE7/SIZ1 (io), 81 PE6/SIZ0 (io), 82 PE4/~{AS} (io), 85 PE5/~{DS} (io), 86 PE3/~{RMC} (io), 87 PE2/~{AVEC} (io), 88 PE1/~{DSACK}1 (io), 89 PE0/~{DSACK}0 (io), 90 ADDR0 (out), 91 DATA15 (io), 92 DATA14 (io), 93 DATA13 (io), 94 DATA12 (io), 97 DATA11 (io), 98 DATA10 (io), 99 DATA9 (io), 100 DATA8 (io), 102 DATA7 (io), 103 DATA6 (io), 104 DATA5 (io), 105 DATA4 (io), 108 DATA3 (io), 109 DATA2 (io), 110 DATA1 (io), 111 DATA0 (io), 112 ~{CSBOOT} (hiz), 113 ~{BR}/~{CS}0 (io), 114 ~{BG}/~{CS}1 (hiz), 115 ~{BGACK}/~{CS}2 (io), 118 PC0/FC0/~{CS}3 (out), 119 PC1/FC1/~{CS}4 (out), 120 PC2/FC2/~{CS}5 (out), 121 PC3/ADDR19/~{CS}6 (out), 122 PC4/ADDR20/~{CS}7 (out), 123 PC5/ADDR21/~{CS}8 (out), 124 PC6/ADDR22/~{CS}9 (out), 125 ADDR23/~{CS1}0 (out), 128 T2CLK (in), 129 TPUCH15 (io), 130 TPUCH14 (io), 131 TPUCH13 (io), 132 TPUCH12 (io)
part B pins: 1 VDD (power), 2 VSS (power), 7 VDD (power), 8 VSS (power), 17 VSS (power), 18 VDD (power), 28 VDD (power), 29 VSS (power), 34 VSS (power), 39 VDD (power), 40 VSS (power), 50 VDD (power), 51 VSS (power), 59 VSS (power), 63 VDD (power), 65 VDD (power), 67 VSS (power), 83 VSS (power), 84 VDD (power), 95 VSS (power), 96 VDD (power), 101 VSS (power), 106 VSS (power), 107 VDD (power), 116 VDD (power), 117 VSS (power), 126 VDD (power), 127 VSS (power)

## MC68LK332GCPV16
designator U?
32-Bit Microcontroller; Published: 21-Mar-2003; LatestRevisionDate: 13-Apr-2006; LatestRevisionNote: IPC-7351 Footprint Added.; DatasheetVersion: Jan-1996; PackageVersion: 1995; PackageReference: 918-02; Publisher: Altium Limited; PackageDescription: 144-Pin Thin Quad Flat Pack 0.5 mm Pitch; ComponentLink1Description: Manufacturer Link; ComponentLink1URL: http://www.freescale.com/; ComponentLink2Description: Datasheet; ComponentLink2URL: http://www.freescale.com/files/microcontrollers/doc/user_guide/MC68332UM.pdf
footprint 918-02_N (Thin QFP, 144-Leads, Body 20x20mm, Pitch 0.5mm, IPC Medium Density)
footprint 918-02_L (Thin QFP, 144-Leads, Body 20x20mm, Pitch 0.5mm, IPC High Density)
footprint 918-02_M (Thin QFP, 144-Leads, Body 20x20mm, Pitch 0.5mm, IPC Low Density)
3D model MC68LK332-918 (144-Pin Thin Quad Flat Pack 0.5 mm Pitch)
part A pins: 3 FC0/~{CS}3 (out), 4 FC1/~{CS}4 (out), 5 FC2/~{CS}5 (out), 6 ADDR19/~{CS}6 (out), 7 ADDR20/~{CS}7 (out), 8 ADDR21/~{CS}8 (out), 9 ADDR22/~{CS}9 (out), 10 ADDR23/~{CS}10 (out), 13 T2CLK (in), 14 TPUCH15 (io), 15 TPUCH14 (io), 16 TPUCH13 (io), 17 TPUCH12 (io), 21 TPUCH11 (io), 22 TPUCH10 (io), 23 TPUCH9 (io), 24 TPUCH8 (io), 27 TPUCH7 (io), 28 TPUCH6 (io), 29 TPUCH5 (io), 30 TPUCH4 (io), 31 TPUCH3 (io), 32 TPUCH2 (io), 33 TPUCH1 (io), 34 TPUCH0 (io), 38 VSTBY (power), 39 ADDR1 (out), 40 ADDR2 (out), 41 ADDR3 (out), 42 ADDR4 (out), 43 ADDR5 (out), 44 ADDR6 (out), 45 ADDR7 (out), 46 ADDR8 (out), 49 ADDR9 (out), 50 ADDR10 (out), 51 ADDR11 (out), 52 ADDR12 (out), 56 ADDR13 (out), 57 ADDR14 (out), 58 ADDR15 (out), 60 ADDR16 (out), 63 ADDR17 (out), 64 ADDR18 (out), 65 PQS0/MISO (io), 66 PQS1/MOSI (io), 67 PQS2/SCK (io), 68 PQS3/PCS0/~{SS} (io), 69 PQS4/PCS1 (io), 70 PQS5/PCS2 (io), 71 PQS6/PCS3 (io), 75 PQS7/TXD (io), 76 RXD (in), 77 ~{IPIPE}/DSO (out), 78 ~{IFETCH}/DSI (io), 79 ~{BKPT}/DSCLK (in), 80 TSC (in), 81 FREEZE/QUOT (out), 83 XTAL, 85 EXTAL (in), 87 XFC, 90 CLKOUT (hiz), 92 ~{RESET} (io), 93 ~{HALT} (io), 94 ~{BERR} (io), 95 PF7/IRQ7 (io), 96 PF6/IRQ6 (io), 97 PF5/IRQ5 (io), 98 PF4/IRQ4 (io), 99 PF3/IRQ3 (io), 100 PF2/IRQ2 (io), 101 PF1/IRQ1 (io), 102 PF0/MODCLK (io), 103 R/~{W} (out), 104 PE7/SIZ1 (io), 105 PE6/SIZ0 (io), 106 PE4/~{AS} (io), 110 PE5/~{DS} (io), 111 PE3/~{RMC} (io), 112 PE2/~{AVEC} (io), 113 PE1/~{DSACK}1 (io), 114 PE0/~{DSACK}0 (io), 115 ADDR0 (out), 116 DATA15 (io), 117 DATA14 (io), 118 DATA13 (io), 119 DATA12 (io), 122 DATA11 (io), 124 DATA10 (io), 125 DATA9 (io), 127 DATA8 (io), 130 DATA7 (io), 131 DATA6 (io), 132 DATA5 (io), 133 DATA4 (io), 136 DATA3 (io), 137 DATA2 (io), 138 DATA1 (io), 139 DATA0 (io), 140 ~{CSBOOT} (hiz), 141 ~{BR}/~{CS}0 (io), 142 ~{BG}/~{CS}1 (hiz), 143 ~{BGACK}/~{CS}2 (io)
part B pins: 1 NC, 2 VSS (power), 11 VDD (power), 12 VSS (power), 18 NC, 19 VDD (power), 20 VSS (power), 25 VDDE (power), 26 VSSE (power), 35 VSS (power), 36 NC, 37 VDD (power), 47 VDD (power), 48 VSS (power), 53 NC, 54 VSS (power), 55 NC, 59 NC, 61 VDD (power), 62 VSS (power), 72 VDD (power), 73 NC, 74 VSS (power), 82 VSS (power), 84 VDD (power), 86 VDD (power), 88 NC, 89 VDD (power), 91 VSS (power), 107 VSS (power), 108 NC, 109 VDD (power), 120 VSS (power), 121 VDD (power), 123 NC, 126 NC, 128 VSS (power), 129 NC, 134 VSS (power), 135 VDD (power), 144 VDD (power)

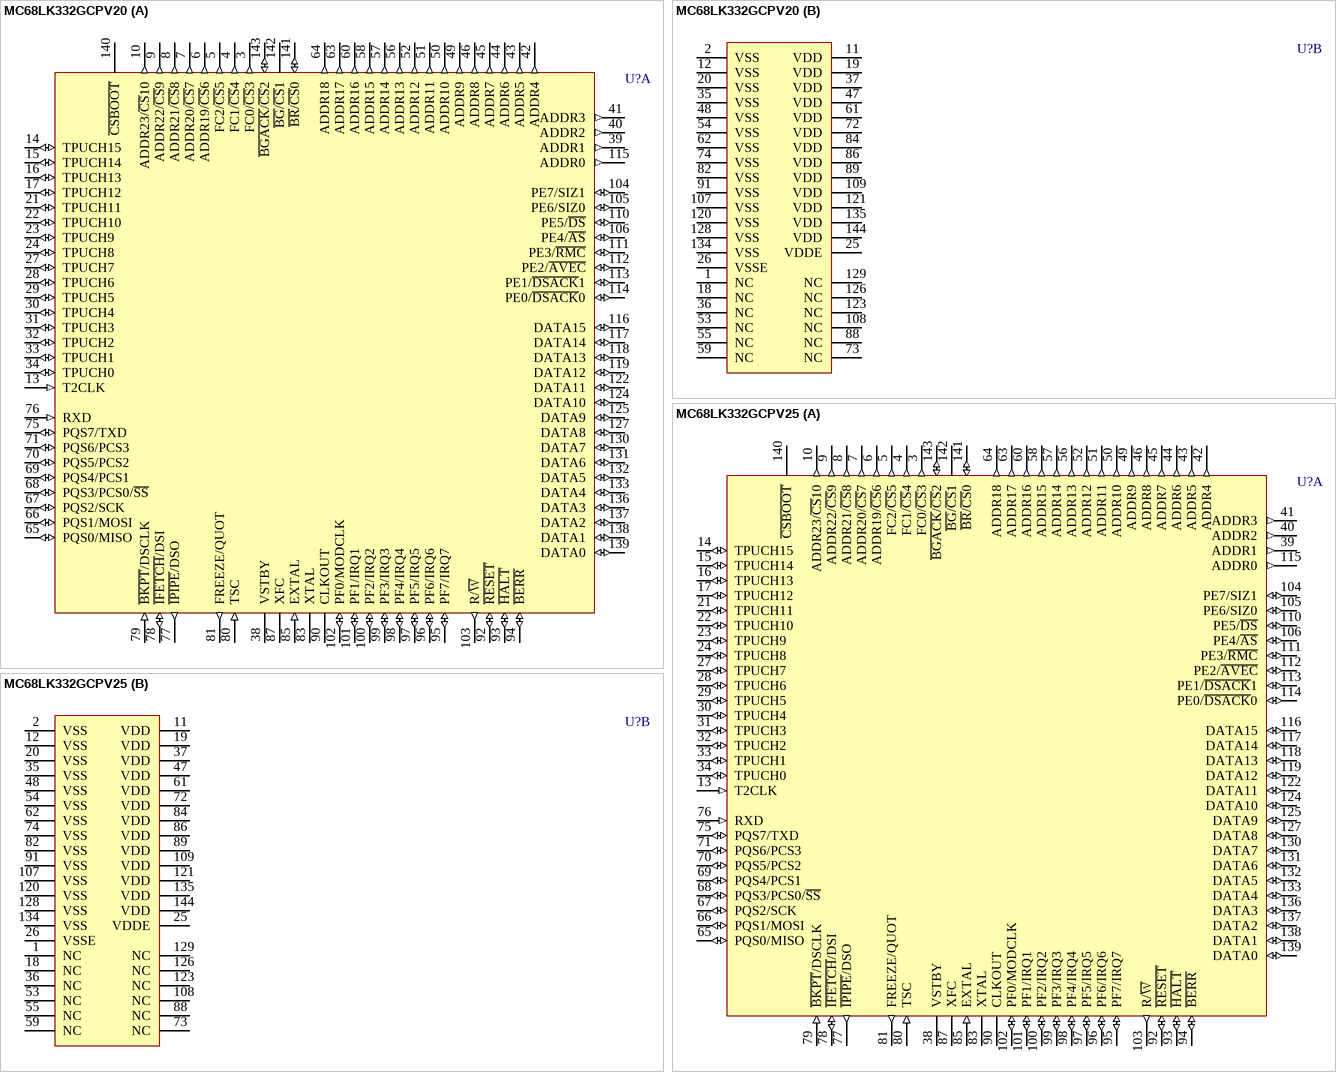
[diagram p44: symbols MC68LK332GCPV20 to MC68LK332GCPV25]

## MC68LK332GCPV20
designator U?
32-Bit Microcontroller; Published: 21-Mar-2003; LatestRevisionDate: 13-Apr-2006; LatestRevisionNote: IPC-7351 Footprint Added.; DatasheetVersion: Jan-1996; PackageVersion: 1995; PackageReference: 918-02; Publisher: Altium Limited; PackageDescription: 144-Pin Thin Quad Flat Pack 0.5 mm Pitch; ComponentLink1Description: Manufacturer Link; ComponentLink1URL: http://www.freescale.com/; ComponentLink2Description: Datasheet; ComponentLink2URL: http://www.freescale.com/files/microcontrollers/doc/user_guide/MC68332UM.pdf
footprint 918-02_N (Thin QFP, 144-Leads, Body 20x20mm, Pitch 0.5mm, IPC Medium Density)
footprint 918-02_L (Thin QFP, 144-Leads, Body 20x20mm, Pitch 0.5mm, IPC High Density)
footprint 918-02_M (Thin QFP, 144-Leads, Body 20x20mm, Pitch 0.5mm, IPC Low Density)
3D model MC68LK332-918 (144-Pin Thin Quad Flat Pack 0.5 mm Pitch)
part A pins: 3 FC0/~{CS}3 (out), 4 FC1/~{CS}4 (out), 5 FC2/~{CS}5 (out), 6 ADDR19/~{CS}6 (out), 7 ADDR20/~{CS}7 (out), 8 ADDR21/~{CS}8 (out), 9 ADDR22/~{CS}9 (out), 10 ADDR23/~{CS}10 (out), 13 T2CLK (in), 14 TPUCH15 (io), 15 TPUCH14 (io), 16 TPUCH13 (io), 17 TPUCH12 (io), 21 TPUCH11 (io), 22 TPUCH10 (io), 23 TPUCH9 (io), 24 TPUCH8 (io), 27 TPUCH7 (io), 28 TPUCH6 (io), 29 TPUCH5 (io), 30 TPUCH4 (io), 31 TPUCH3 (io), 32 TPUCH2 (io), 33 TPUCH1 (io), 34 TPUCH0 (io), 38 VSTBY (power), 39 ADDR1 (out), 40 ADDR2 (out), 41 ADDR3 (out), 42 ADDR4 (out), 43 ADDR5 (out), 44 ADDR6 (out), 45 ADDR7 (out), 46 ADDR8 (out), 49 ADDR9 (out), 50 ADDR10 (out), 51 ADDR11 (out), 52 ADDR12 (out), 56 ADDR13 (out), 57 ADDR14 (out), 58 ADDR15 (out), 60 ADDR16 (out), 63 ADDR17 (out), 64 ADDR18 (out), 65 PQS0/MISO (io), 66 PQS1/MOSI (io), 67 PQS2/SCK (io), 68 PQS3/PCS0/~{SS} (io), 69 PQS4/PCS1 (io), 70 PQS5/PCS2 (io), 71 PQS6/PCS3 (io), 75 PQS7/TXD (io), 76 RXD (in), 77 ~{IPIPE}/DSO (out), 78 ~{IFETCH}/DSI (io), 79 ~{BKPT}/DSCLK (in), 80 TSC (in), 81 FREEZE/QUOT (out), 83 XTAL, 85 EXTAL (in), 87 XFC, 90 CLKOUT (hiz), 92 ~{RESET} (io), 93 ~{HALT} (io), 94 ~{BERR} (io), 95 PF7/IRQ7 (io), 96 PF6/IRQ6 (io), 97 PF5/IRQ5 (io), 98 PF4/IRQ4 (io), 99 PF3/IRQ3 (io), 100 PF2/IRQ2 (io), 101 PF1/IRQ1 (io), 102 PF0/MODCLK (io), 103 R/~{W} (out), 104 PE7/SIZ1 (io), 105 PE6/SIZ0 (io), 106 PE4/~{AS} (io), 110 PE5/~{DS} (io), 111 PE3/~{RMC} (io), 112 PE2/~{AVEC} (io), 113 PE1/~{DSACK}1 (io), 114 PE0/~{DSACK}0 (io), 115 ADDR0 (out), 116 DATA15 (io), 117 DATA14 (io), 118 DATA13 (io), 119 DATA12 (io), 122 DATA11 (io), 124 DATA10 (io), 125 DATA9 (io), 127 DATA8 (io), 130 DATA7 (io), 131 DATA6 (io), 132 DATA5 (io), 133 DATA4 (io), 136 DATA3 (io), 137 DATA2 (io), 138 DATA1 (io), 139 DATA0 (io), 140 ~{CSBOOT} (hiz), 141 ~{BR}/~{CS}0 (io), 142 ~{BG}/~{CS}1 (hiz), 143 ~{BGACK}/~{CS}2 (io)
part B pins: 1 NC, 2 VSS (power), 11 VDD (power), 12 VSS (power), 18 NC, 19 VDD (power), 20 VSS (power), 25 VDDE (power), 26 VSSE (power), 35 VSS (power), 36 NC, 37 VDD (power), 47 VDD (power), 48 VSS (power), 53 NC, 54 VSS (power), 55 NC, 59 NC, 61 VDD (power), 62 VSS (power), 72 VDD (power), 73 NC, 74 VSS (power), 82 VSS (power), 84 VDD (power), 86 VDD (power), 88 NC, 89 VDD (power), 91 VSS (power), 107 VSS (power), 108 NC, 109 VDD (power), 120 VSS (power), 121 VDD (power), 123 NC, 126 NC, 128 VSS (power), 129 NC, 134 VSS (power), 135 VDD (power), 144 VDD (power)

## MC68LK332GCPV25
designator U?
32-Bit Microcontroller; Published: 21-Mar-2003; LatestRevisionDate: 13-Apr-2006; LatestRevisionNote: IPC-7351 Footprint Added.; DatasheetVersion: Jan-1996; PackageVersion: 1995; PackageReference: 918-02; Publisher: Altium Limited; PackageDescription: 144-Pin Thin Quad Flat Pack 0.5 mm Pitch; ComponentLink1Description: Manufacturer Link; ComponentLink1URL: http://www.freescale.com/; ComponentLink2Description: Datasheet; ComponentLink2URL: http://www.freescale.com/files/microcontrollers/doc/user_guide/MC68332UM.pdf
footprint 918-02_N (Thin QFP, 144-Leads, Body 20x20mm, Pitch 0.5mm, IPC Medium Density)
footprint 918-02_L (Thin QFP, 144-Leads, Body 20x20mm, Pitch 0.5mm, IPC High Density)
footprint 918-02_M (Thin QFP, 144-Leads, Body 20x20mm, Pitch 0.5mm, IPC Low Density)
3D model MC68LK332-918 (144-Pin Thin Quad Flat Pack 0.5 mm Pitch)
part A pins: 3 FC0/~{CS}3 (out), 4 FC1/~{CS}4 (out), 5 FC2/~{CS}5 (out), 6 ADDR19/~{CS}6 (out), 7 ADDR20/~{CS}7 (out), 8 ADDR21/~{CS}8 (out), 9 ADDR22/~{CS}9 (out), 10 ADDR23/~{CS}10 (out), 13 T2CLK (in), 14 TPUCH15 (io), 15 TPUCH14 (io), 16 TPUCH13 (io), 17 TPUCH12 (io), 21 TPUCH11 (io), 22 TPUCH10 (io), 23 TPUCH9 (io), 24 TPUCH8 (io), 27 TPUCH7 (io), 28 TPUCH6 (io), 29 TPUCH5 (io), 30 TPUCH4 (io), 31 TPUCH3 (io), 32 TPUCH2 (io), 33 TPUCH1 (io), 34 TPUCH0 (io), 38 VSTBY (power), 39 ADDR1 (out), 40 ADDR2 (out), 41 ADDR3 (out), 42 ADDR4 (out), 43 ADDR5 (out), 44 ADDR6 (out), 45 ADDR7 (out), 46 ADDR8 (out), 49 ADDR9 (out), 50 ADDR10 (out), 51 ADDR11 (out), 52 ADDR12 (out), 56 ADDR13 (out), 57 ADDR14 (out), 58 ADDR15 (out), 60 ADDR16 (out), 63 ADDR17 (out), 64 ADDR18 (out), 65 PQS0/MISO (io), 66 PQS1/MOSI (io), 67 PQS2/SCK (io), 68 PQS3/PCS0/~{SS} (io), 69 PQS4/PCS1 (io), 70 PQS5/PCS2 (io), 71 PQS6/PCS3 (io), 75 PQS7/TXD (io), 76 RXD (in), 77 ~{IPIPE}/DSO (out), 78 ~{IFETCH}/DSI (io), 79 ~{BKPT}/DSCLK (in), 80 TSC (in), 81 FREEZE/QUOT (out), 83 XTAL, 85 EXTAL (in), 87 XFC, 90 CLKOUT (hiz), 92 ~{RESET} (io), 93 ~{HALT} (io), 94 ~{BERR} (io), 95 PF7/IRQ7 (io), 96 PF6/IRQ6 (io), 97 PF5/IRQ5 (io), 98 PF4/IRQ4 (io), 99 PF3/IRQ3 (io), 100 PF2/IRQ2 (io), 101 PF1/IRQ1 (io), 102 PF0/MODCLK (io), 103 R/~{W} (out), 104 PE7/SIZ1 (io), 105 PE6/SIZ0 (io), 106 PE4/~{AS} (io), 110 PE5/~{DS} (io), 111 PE3/~{RMC} (io), 112 PE2/~{AVEC} (io), 113 PE1/~{DSACK}1 (io), 114 PE0/~{DSACK}0 (io), 115 ADDR0 (out), 116 DATA15 (io), 117 DATA14 (io), 118 DATA13 (io), 119 DATA12 (io), 122 DATA11 (io), 124 DATA10 (io), 125 DATA9 (io), 127 DATA8 (io), 130 DATA7 (io), 131 DATA6 (io), 132 DATA5 (io), 133 DATA4 (io), 136 DATA3 (io), 137 DATA2 (io), 138 DATA1 (io), 139 DATA0 (io), 140 ~{CSBOOT} (hiz), 141 ~{BR}/~{CS}0 (io), 142 ~{BG}/~{CS}1 (hiz), 143 ~{BGACK}/~{CS}2 (io)
part B pins: 1 NC, 2 VSS (power), 11 VDD (power), 12 VSS (power), 18 NC, 19 VDD (power), 20 VSS (power), 25 VDDE (power), 26 VSSE (power), 35 VSS (power), 36 NC, 37 VDD (power), 47 VDD (power), 48 VSS (power), 53 NC, 54 VSS (power), 55 NC, 59 NC, 61 VDD (power), 62 VSS (power), 72 VDD (power), 73 NC, 74 VSS (power), 82 VSS (power), 84 VDD (power), 86 VDD (power), 88 NC, 89 VDD (power), 91 VSS (power), 107 VSS (power), 108 NC, 109 VDD (power), 120 VSS (power), 121 VDD (power), 123 NC, 126 NC, 128 VSS (power), 129 NC, 134 VSS (power), 135 VDD (power), 144 VDD (power)

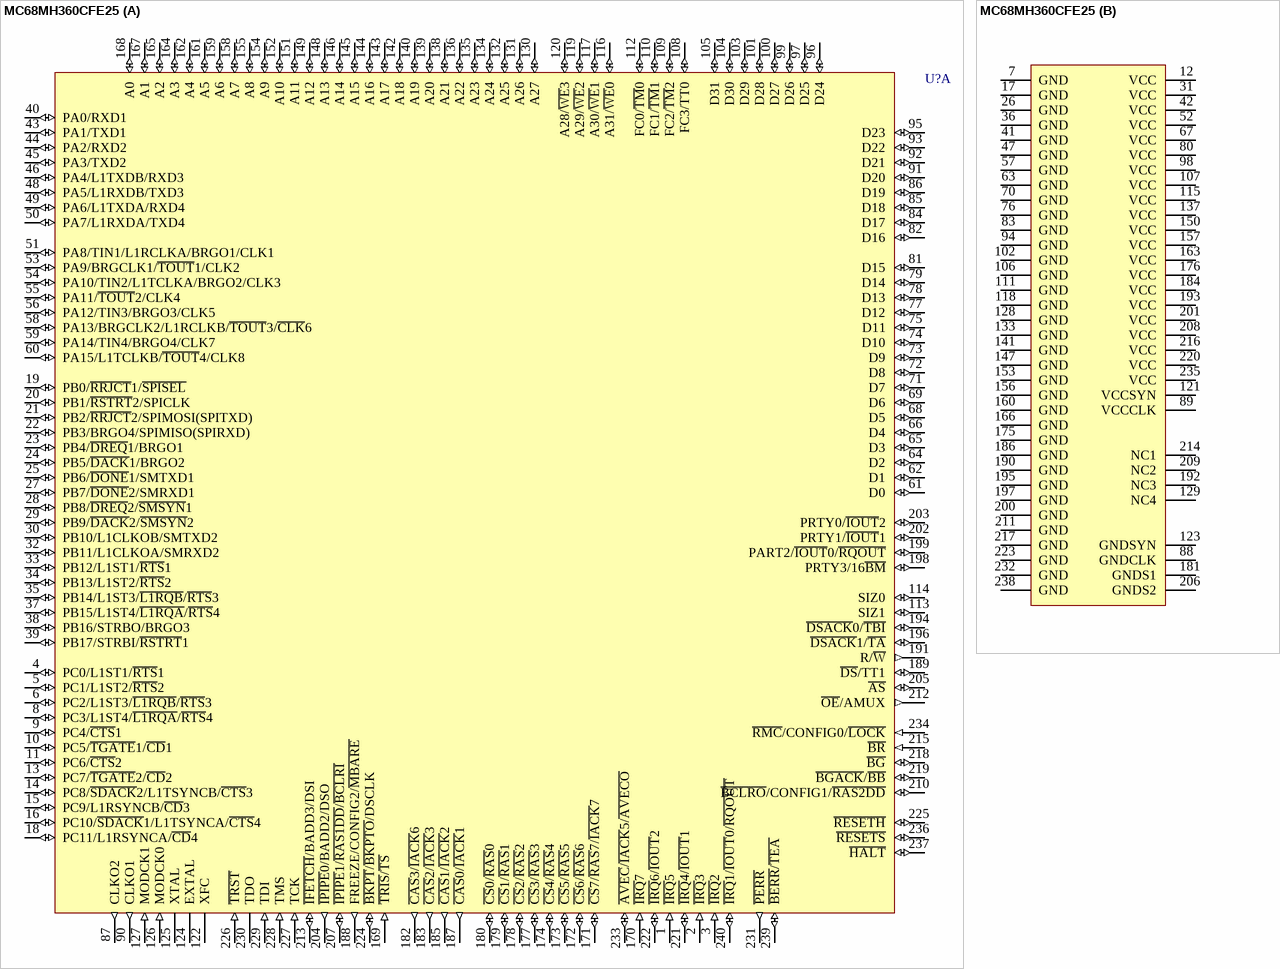
[diagram p45: symbol MC68MH360CFE25]

## MC68MH360CFE25
designator U?
Quad Integrated Communication Controller; Published: 21-Mar-2003; LatestRevisionDate: 13-Apr-2006; LatestRevisionNote: IPC-7351 Footprint Added.; DatasheetVersion: Jan-1995; PackageVersion: Mar-1995; PackageReference: 988-01; Publisher: Altium Limited; PackageDescription: 240-Pin Shrink Quad Flat Pack 0.5 mm Pitch; ComponentLink1Description: Manufacturer Link; ComponentLink1URL: http://www.freescale.com/; ComponentLink2Description: Datasheet; ComponentLink2URL: http://www.freescale.com/files/32bit/doc/data_sheet/MC68360.pdf
footprint 988-01_N (Shrink QFP, 240-Leads, Body 31.3x31.3mm, Pitch 0.5mm, IPC Medium Density)
footprint 988-01_L (Shrink QFP, 240-Leads, Body 31.3x31.3mm, Pitch 0.5mm, IPC High Density)
footprint 988-01_M (Shrink QFP, 240-Leads, Body 31.3x31.3mm, Pitch 0.5mm, IPC Low Density)
3D model MC68MH360-988-01 (240-Pin Shrink Quad Flat Pack 0.5 mm Pitch)
part A pins: 1 ~{IRQ}5 (in), 2 ~{IRQ}3 (in), 3 ~{IRQ}2 (in), 4 PC0/L1ST1/~{RTS}1 (io), 5 PC1/L1ST2/~{RTS}2 (io), 6 PC2/L1ST3/~{L1RQB}/~{RTS}3 (io), 8 PC3/L1ST4/~{L1RQA}/~{RTS}4 (io), 9 PC4/~{CTS}1 (io), 10 PC5/~{TGATE}1/~{CD}1 (io), 11 PC6/~{CTS}2 (io), 13 PC7/~{TGATE}2/~{CD}2 (io), 14 PC8/~{SDACK}2/L1TSYNCB/~{CTS}3 (io), 15 PC9/L1RSYNCB/~{CD}3 (io), 16 PC10/~{SDACK}1/L1TSYNCA/~{CTS}4 (io), 18 PC11/L1RSYNCA/~{CD}4 (io), 19 PB0/~{RRJCT}1/~{SPISEL} (io), 20 PB1/~{RSTRT}2/SPICLK (io), 21 PB2/~{RRJCT}2/SPIMOSI(SPITXD) (io), 22 PB3/BRGO4/SPIMISO(SPIRXD) (io), 23 PB4/~{DREQ}1/BRGO1 (io), 24 PB5/~{DACK}1/BRGO2 (io), 25 PB6/~{DONE}1/SMTXD1 (io), 27 PB7/~{DONE}2/SMRXD1 (io), 28 PB8/~{DREQ}2/~{SMSYN}1 (io), 29 PB9/~{DACK}2/~{SMSYN}2 (io), 30 PB10/L1CLKOB/SMTXD2 (io), 32 PB11/L1CLKOA/SMRXD2 (io), 33 PB12/L1ST1/~{RTS}1 (io), 34 PB13/L1ST2/~{RTS}2 (io), 35 PB14/L1ST3/~{L1RQB}/~{RTS}3 (io), 37 PB15/L1ST4/~{L1RQA}/~{RTS}4 (io), 38 PB16/STRBO/BRGO3 (io), 39 PB17/STRBI/~{RSTRT}1 (io), 40 PA0/RXD1 (io), 43 PA1/TXD1 (io), 44 PA2/RXD2 (io), 45 PA3/TXD2 (io), 46 PA4/L1TXDB/RXD3 (io), 48 PA5/L1RXDB/TXD3 (io), 49 PA6/L1TXDA/RXD4 (io), 50 PA7/L1RXDA/TXD4 (io), 51 PA8/TIN1/L1RCLKA/BRGO1/CLK1 (io), 53 PA9/BRGCLK1/~{TOUT}1/CLK2 (io), 54 PA10/TIN2/L1TCLKA/BRGO2/CLK3 (io), 55 PA11/~{TOUT}2/CLK4 (io), 56 PA12/TIN3/BRGO3/CLK5 (io), 58 PA13/BRGCLK2/L1RCLKB/~{TOUT}3/~{CLK}6 (io), 59 PA14/TIN4/BRGO4/CLK7 (io), 60 PA15/L1TCLKB/~{TOUT}4/CLK8 (io), 61 D0 (io), 62 D1 (io), 64 D2 (io), 65 D3 (io), 66 D4 (io), 68 D5 (io), 69 D6 (io), 71 D7 (io), 72 D8 (io), 73 D9 (io), 74 D10 (io), 75 D11 (io), 77 D12 (io), 78 D13 (io), 79 D14 (io), 81 D15 (io), 82 D16 (io), 84 D17 (io), 85 D18 (io), 86 D19 (io), 87 CLKO2 (out), 90 CLKO1 (out), 91 D20 (io), 92 D21 (io), 93 D22 (io), 95 D23 (io), 96 D24 (io), 97 D25 (io), 99 D26 (io), 100 D27 (io), 101 D28 (io), 103 D29 (io), 104 D30 (io), 105 D31 (io), 108 FC3/TT0 (io), 109 FC2/~{TM}2 (io), 110 FC1/~{TM}1 (io), 112 FC0/~{TM}0 (io), 113 SIZ1 (io), 114 SIZ0 (io), 116 A31/~{WE}0 (io), 117 A30/~{WE}1 (io), 119 A29/~{WE}2 (io), 120 A28/~{WE}3 (io), 122 XFC, 124 EXTAL, 125 XTAL, 126 MODCK0 (in), 127 MODCK1 (in), 130 A27 (io), 131 A26 (io), 132 A25 (io), 134 A24 (io), 135 A23 (io), 136 A22 (io), 138 A21 (io), 139 A20 (io), 140 A19 (io), 142 A18 (io), 143 A17 (io), 144 A16 (io), 145 A15 (io), 146 A14 (io), 148 A13 (io), 149 A12 (io), 151 A11 (io), 152 A10 (io), 154 A9 (io), 155 A8 (io), 158 A7 (io), 159 A6 (io), 161 A5 (io), 162 A4 (io), 164 A3 (io), 165 A2 (io), 167 A1 (io), 168 A0 (io), 169 ~{TRIS}/~{TS} (in), 170 ~{IRQ}7 (in), 171 ~{CS}7/~{RAS}7/~{IACK}7 (io), 172 ~{CS}6/~{RAS}6 (io), 173 ~{CS}5/~{RAS}5 (io), 174 ~{CS}4/~{RAS}4 (io), 177 ~{CS}3/~{RAS}3 (io), 178 ~{CS}2/~{RAS}2 (io), 179 ~{CS}1/~{RAS}1 (io), 180 ~{CS}0/~{RAS}0 (io), 182 ~{CAS}3/~{IACK}6 (out), 183 ~{CAS}2/~{IACK}3 (out), 185 ~{CAS}1/~{IACK}2 (out), 187 ~{CAS}0/~{IACK}1 (out), 188 FREEZE/CONFIG2/~{MBARE} (out), 189 ~{DS}/TT1 (io), 191 R/~{W} (out), 194 ~{DSACK}0/~{TBI} (io), 196 ~{DSACK}1/~{TA} (io), 198 PRTY3/16~{BM} (io), 199 PART2/~{IOUT}0/~{RQOUT} (io), 202 PRTY1/~{IOUT}1 (io), 203 PRTY0/~{IOUT}2 (io), 204 ~{IPIPE}0/BADD2/DSO (out), 205 ~{AS} (io), 207 ~{IPIPE}1/~{RAS1DD}/~{BCLRI} (io), 210 ~{BCLRO}/CONFIG1/~{RAS2DD} (io), 212 ~{OE}/AMUX (out), 213 ~{IFETCH}/BADD3/DSI (io), 215 ~{BR} (in), 218 ~{BG} (io), 219 ~{BGACK}/~{BB} (io), 221 ~{IRQ}4/~{IOUT}1 (io), 222 ~{IRQ}6/~{IOUT}2 (io), 224 ~{BKPT}/~{BKPTO}/DSCLK (io), 225 ~{RESETH} (io), 226 ~{TRST} (in), 227 TCK (in), 228 TMS (in), 229 TDI (in), 230 TDO (hiz), 231 ~{PERR} (out), 233 ~{AVEC}/~{IACK}5/~{AVECO} (io), 234 ~{RMC}/CONFIG0/~{LOCK} (in), 236 ~{RESETS} (io), 237 ~{HALT} (io), 239 ~{BERR}/~{TEA} (io), 240 ~{IRQ}1/~{IOUT}0/~{RQOUT} (io)
part B pins: 7 GND (power), 12 VCC (power), 17 GND (power), 26 GND (power), 31 VCC (power), 36 GND (power), 41 GND (power), 42 VCC (power), 47 GND (power), 52 VCC (power), 57 GND (power), 63 GND (power), 67 VCC (power), 70 GND (power), 76 GND (power), 80 VCC (power), 83 GND (power), 88 GNDCLK (power), 89 VCCCLK (power), 94 GND (power), 98 VCC (power), 102 GND (power), 106 GND (power), 107 VCC (power), 111 GND (power), 115 VCC (power), 118 GND (power), 121 VCCSYN (power), 123 GNDSYN (power), 128 GND (power), 129 NC4, 133 GND (power), 137 VCC (power), 141 GND (power), 147 GND (power), 150 VCC (power), 153 GND (power), 156 GND (power), 157 VCC (power), 160 GND (power), 163 VCC (power), 166 GND (power), 175 GND (power), 176 VCC (power), 181 GNDS1 (power), 184 VCC (power), 186 GND (power), 190 GND (power), 192 NC3, 193 VCC (power), 195 GND (power), 197 GND (power), 200 GND (power), 201 VCC (power), 206 GNDS2 (power), 208 VCC (power), 209 NC2, 211 GND (power), 214 NC1, 216 VCC (power), 217 GND (power), 220 VCC (power), 223 GND (power), 232 GND (power), 235 VCC (power), 238 GND (power)

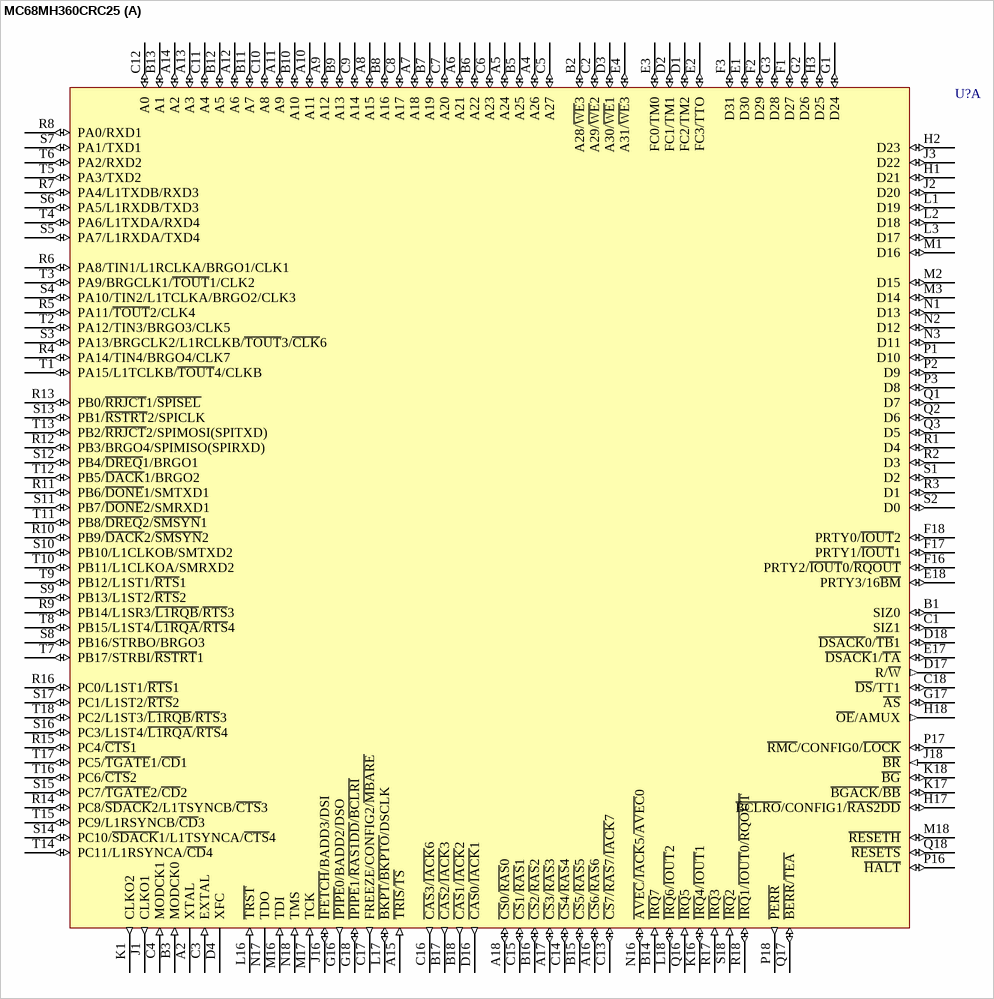
[diagram p46: symbol MC68MH360CRC25]

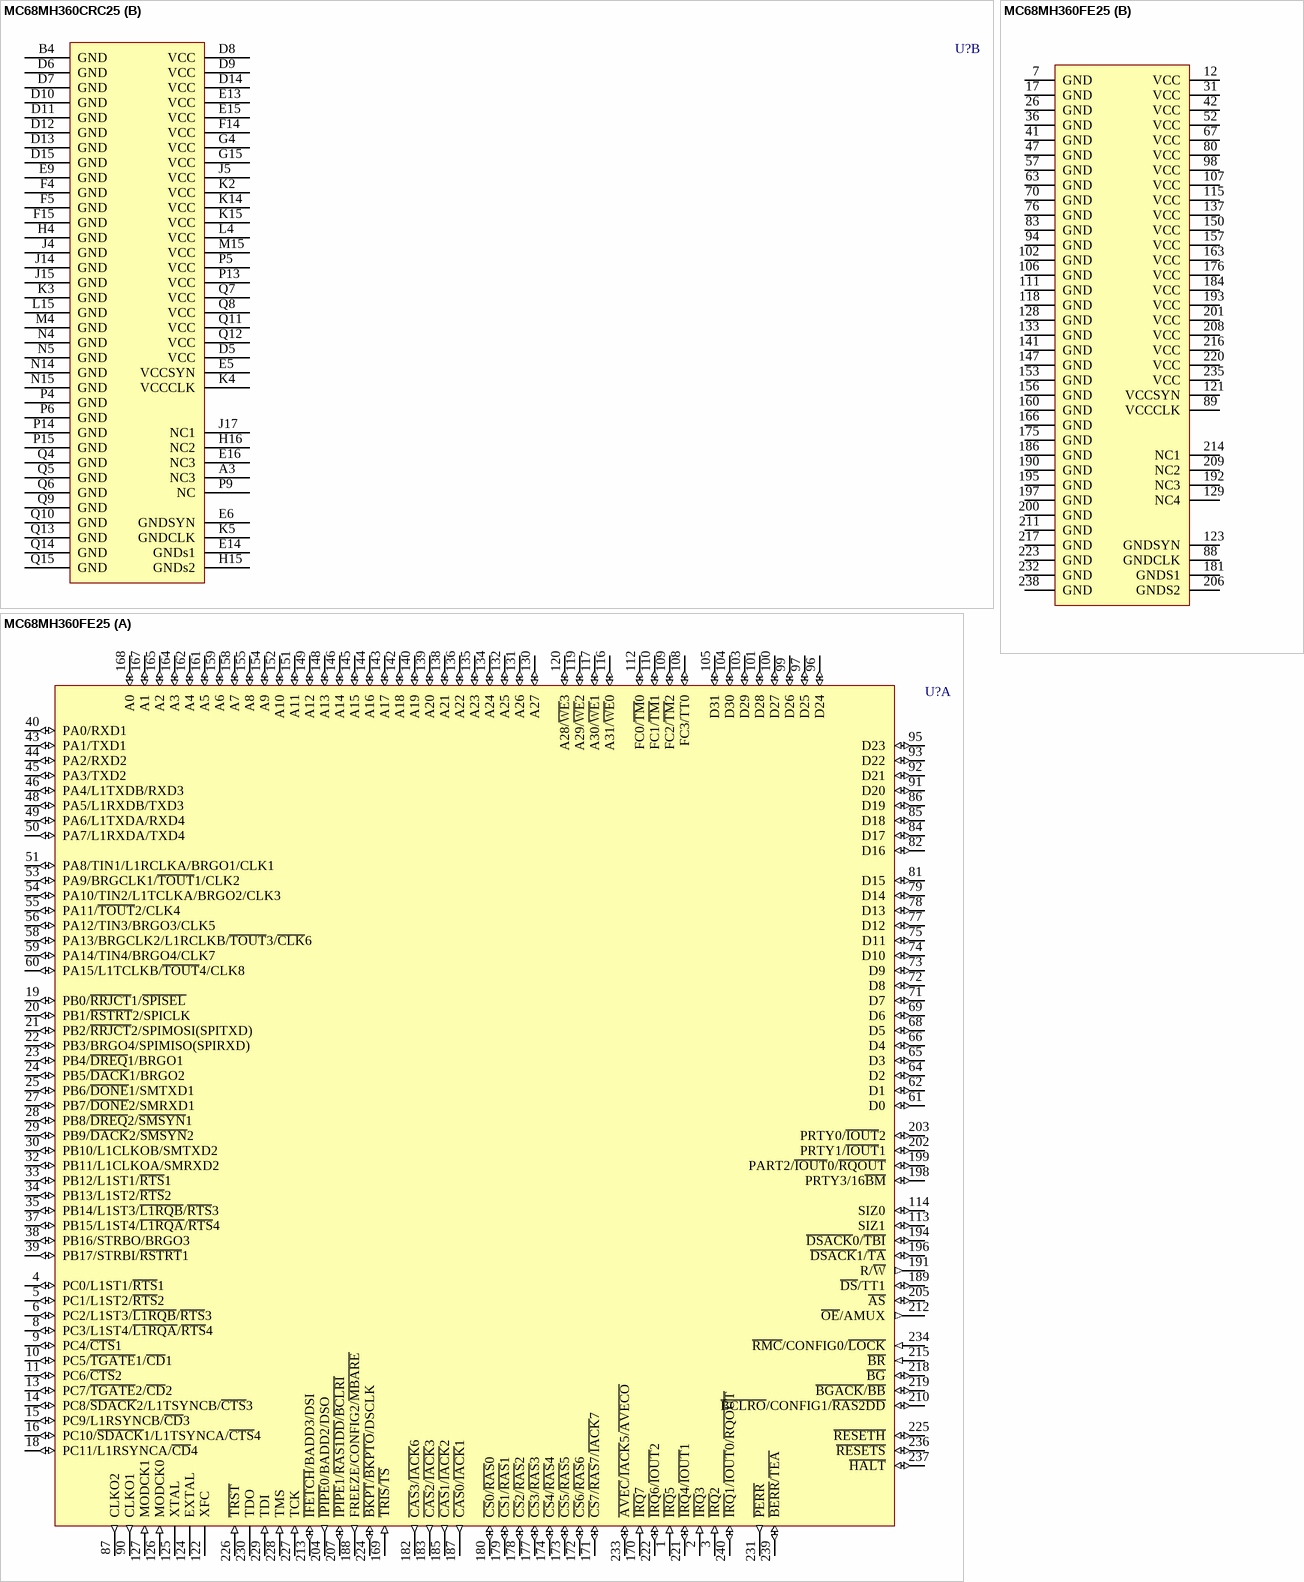
[diagram p47: symbols MC68MH360CRC25 to MC68MH360FE25]

## MC68MH360CRC25
designator U?
Quad Integrated Communication Controller; Published: 21-Mar-2003; LatestRevisionDate: 06-Jun-2005; LatestRevisionNote: Stylized 3D Model Added.; DatasheetVersion: Jan-1995; PackageVersion: Jan-1995; PackageReference: PGA241; Publisher: Altium Limited; PackageDescription: 241-Pin Pin Grid Array 2.54 mm Pitch; ComponentLink1Description: Manufacturer Link; ComponentLink1URL: http://www.freescale.com/; ComponentLink2Description: Datasheet; ComponentLink2URL: http://www.freescale.com/files/32bit/doc/data_sheet/MC68360.pdf
footprint PGA241 (PGA, 241-Leads, Body 47x47mm, Pitch 2.54mm)
3D model MC68MH360-PGA241 (241-Pin Pin Grid Array 2.54 mm Pitch)
part A pins: A2 XTAL, A4 A26 (io), A5 A24 (io), A6 A21 (io), A7 A18 (io), A8 A15 (io), A9 A12 (io), A10 A11 (io), A11 A9 (io), A12 A6 (io), A13 A3 (io), A14 A2 (io), A15 ~{TRIS}/~{TS} (in), A16 ~{CS}6/~{RAS}6 (io), A17 ~{CS}3/~{RAS}3 (io), A18 ~{CS}0/~{RAS}0 (io), B1 SIZ0 (io), B2 A28/~{WE}3 (io), B3 MODCK0 (in), B5 A25 (io), B6 A22 (io), B7 A19 (io), B8 A16 (io), B9 A13 (io), B10 A10 (io), B11 A7 (io), B12 A5 (io), B13 A1 (io), B14 ~{IRQ}7 (in), B15 ~{CS}5/~{RAS}5 (io), B16 ~{CS}2/~{RAS}2 (io), B17 ~{CAS}2/~{IACK}3 (out), B18 ~{CAS}1/~{IACK}2 (out), C1 SIZ1 (io), C2 A29/~{WE}2 (io), C3 EXTAL (in), C4 MODCK1 (in), C5 A27 (io), C6 A23 (io), C7 A20 (io), C8 A17 (io), C9 A14 (io), C10 A8 (io), C11 A4 (io), C12 A0 (io), C13 ~{CS}7/~{RAS}7/~{IACK}7 (io), C14 ~{CS}4/~{RAS}4 (io), C15 ~{CS}1/~{RAS}1 (io), C16 ~{CAS}3/~{IACK}6 (out), C17 FREEZE/CONFIG2/~{MBARE} (out), C18 ~{DS}/TT1 (io), D1 FC2/TM2 (io), D2 FC1/TM1 (io), D3 A30/~{WE}1 (io), D4 XFC, D16 ~{CAS}0/~{IACK}1 (out), D17 R/~{W} (out), D18 ~{DSACK}0/~{TB}1 (io), E1 D30 (io), E2 FC3/TTO (io), E3 FC0/TM0 (io), E4 A31/~{WE}3 (io), E17 ~{DSACK}1/~{TA} (io), E18 PRTY3/16~{BM} (io), F1 D27 (io), F2 D29 (io), F3 D31 (io), F16 PRTY2/~{IOUT}0/~{RQOUT} (io), F17 PRTY1/~{IOUT}1 (io), F18 PRTY0/~{IOUT}2 (io), G1 D24 (io), G2 D26 (io), G3 D28 (io), G16 ~{IPIPE}0/BADD2/DSO (out), G17 ~{AS} (io), G18 ~{IPIPE}1/~{RAS1DD}/~{BCLRI} (io), H1 D21 (io), H2 D23 (io), H3 D25 (io), H17 ~{BCLRO}/CONFIG1/~{RAS2DD} (io), H18 ~{OE}/AMUX (out), J1 CLKO1 (out), J2 D20 (io), J3 D22 (io), J16 ~{IFETCH}/BADD3/DSI (io), J18 ~{BR} (in), K1 CLKO2 (out), K16 ~{IRQ}4/~{IOUT}1 (io), K17 ~{BGACK}/~{BB} (io), K18 ~{BG} (io), L1 D19 (io), L2 D18 (io), L3 D17 (io), L16 ~{TRST} (in), L17 ~{BKPT}/~{BKPTO}/DSCLK (io), L18 ~{IRQ}6/~{IOUT}2 (io), M1 D16 (io), M2 D15 (io), M3 D14 (io), M16 TDI (in), M17 TCK (in), M18 ~{RESETH} (io), N1 D13 (io), N2 D12 (io), N3 D11 (io), N16 ~{AVEC}/~{IACK}5/~{AVEC}0 (io), N17 TDO (hiz), N18 TMS (in), P1 D10 (io), P2 D9 (io), P3 D8 (io), P16 ~{HALT} (io), P17 ~{RMC}/CONFIG0/~{LOCK} (io), P18 ~{PERR} (out), Q1 D7 (io), Q2 D6 (io), Q3 D5 (io), Q16 ~{IRQ}5 (in), Q17 ~{BERR}/~{TEA} (io), Q18 ~{RESETS} (io), R1 D4 (io), R2 D3 (io), R3 D1 (io), R4 PA14/TIN4/BRGO4/CLK7 (io), R5 PA11/~{TOUT}2/CLK4 (io), R6 PA8/TIN1/L1RCLKA/BRGO1/CLK1 (io), R7 PA4/L1TXDB/RXD3 (io), R8 PA0/RXD1 (io), R9 PB14/L1SR3/~{L1RQB}/~{RTS}3 (io), R10 PB9/~{DACK}2/~{SMSYN}2 (io), R11 PB6/~{DONE}1/SMTXD1 (io), R12 PB3/BRGO4/SPIMISO(SPIRXD) (io), R13 PB0/~{RRJCT}1/~{SPISEL} (io), R14 PC8/~{SDACK}2/L1TSYNCB/~{CTS}3 (io), R15 PC4/~{CTS}1 (io), R16 PC0/L1ST1/~{RTS}1 (io), R17 ~{IRQ}3 (in), R18 ~{IRQ}1/~{IOUT}0/~{RQOUT} (io), S1 D2 (io), S2 D0 (io), S3 PA13/BRGCLK2/L1RCLKB/~{TOUT}3/~{CLK}6 (io), S4 PA10/TIN2/L1TCLKA/BRGO2/CLK3 (io), S5 PA7/L1RXDA/TXD4 (io), S6 PA5/L1RXDB/TXD3 (io), S7 PA1/TXD1 (io), S8 PB16/STRBO/BRGO3 (io), S9 PB13/L1ST2/~{RTS}2 (io), S10 PB10/L1CLKOB/SMTXD2 (io), S11 PB7/~{DONE}2/SMRXD1 (io), S12 PB4/~{DREQ}1/BRGO1 (io), S13 PB1/~{RSTRT}2/SPICLK (io), S14 PC10/~{SDACK}1/L1TSYNCA/~{CTS}4 (io), S15 PC7/~{TGATE}2/~{CD}2 (io), S16 PC3/L1ST4/~{L1RQA}/~{RTS}4 (io), S17 PC1/L1ST2/~{RTS}2 (io), S18 ~{IRQ}2 (in), T1 PA15/L1TCLKB/~{TOUT}4/CLKB (io), T2 PA12/TIN3/BRGO3/CLK5 (io), T3 PA9/BRGCLK1/~{TOUT}1/CLK2 (io), T4 PA6/L1TXDA/RXD4 (io), T5 PA3/TXD2 (io), T6 PA2/RXD2 (io), T7 PB17/STRBI/~{RSTRT}1 (io), T8 PB15/L1ST4/~{L1RQA}/~{RTS}4 (io), T9 PB12/L1ST1/~{RTS}1 (io), T10 PB11/L1CLKOA/SMRXD2 (io), T11 PB8/~{DREQ}2/~{SMSYN}1 (io), T12 PB5/~{DACK}1/BRGO2 (io), T13 PB2/~{RRJCT}2/SPIMOSI(SPITXD) (io), T14 PC11/L1RSYNCA/~{CD}4 (io), T15 PC9/L1RSYNCB/~{CD}3 (io), T16 PC6/~{CTS}2 (io), T17 PC5/~{TGATE}1/~{CD}1 (io), T18 PC2/L1ST3/~{L1RQB}/~{RTS}3 (io)
part B pins: A3 NC3, B4 GND (power), D5 VCC (power), D6 GND (power), D7 GND (power), D8 VCC (power), D9 VCC (power), D10 GND (power), D11 GND (power), D12 GND (power), D13 GND (power), D14 VCC (power), D15 GND (power), E5 VCCSYN (power), E6 GNDSYN (power), E9 GND (power), E13 VCC (power), E14 GNDs1 (power), E15 VCC (power), E16 NC3, F4 GND (power), F5 GND (power), F14 VCC (power), F15 GND (power), G4 VCC (power), G15 VCC (power), H4 GND (power), H15 GNDs2 (power), H16 NC2, J4 GND (power), J5 VCC (power), J14 GND (power), J15 GND (power), J17 NC1, K2 VCC (power), K3 GND (power), K4 VCCCLK (power), K5 GNDCLK (power), K14 VCC (power), K15 VCC (power), L4 VCC (power), L15 GND (power), M4 GND (power), M15 VCC (power), N4 GND (power), N5 GND (power), N14 GND (power), N15 GND (power), P4 GND (power), P5 VCC (power), P6 GND (power), P9 NC, P13 VCC (power), P14 GND (power), P15 GND (power), Q4 GND (power), Q5 GND (power), Q6 GND (power), Q7 VCC (power), Q8 VCC (power), Q9 GND (power), Q10 GND (power), Q11 VCC (power), Q12 VCC (power), Q13 GND (power), Q14 GND (power), Q15 GND (power)